# Altium integrated library Microchip DSC 16-Bit dsPIC30F.IntLib: 267 symbols (part 1 of 12)
Pins are listed as number, name and electrical type; pins without a type are passive.

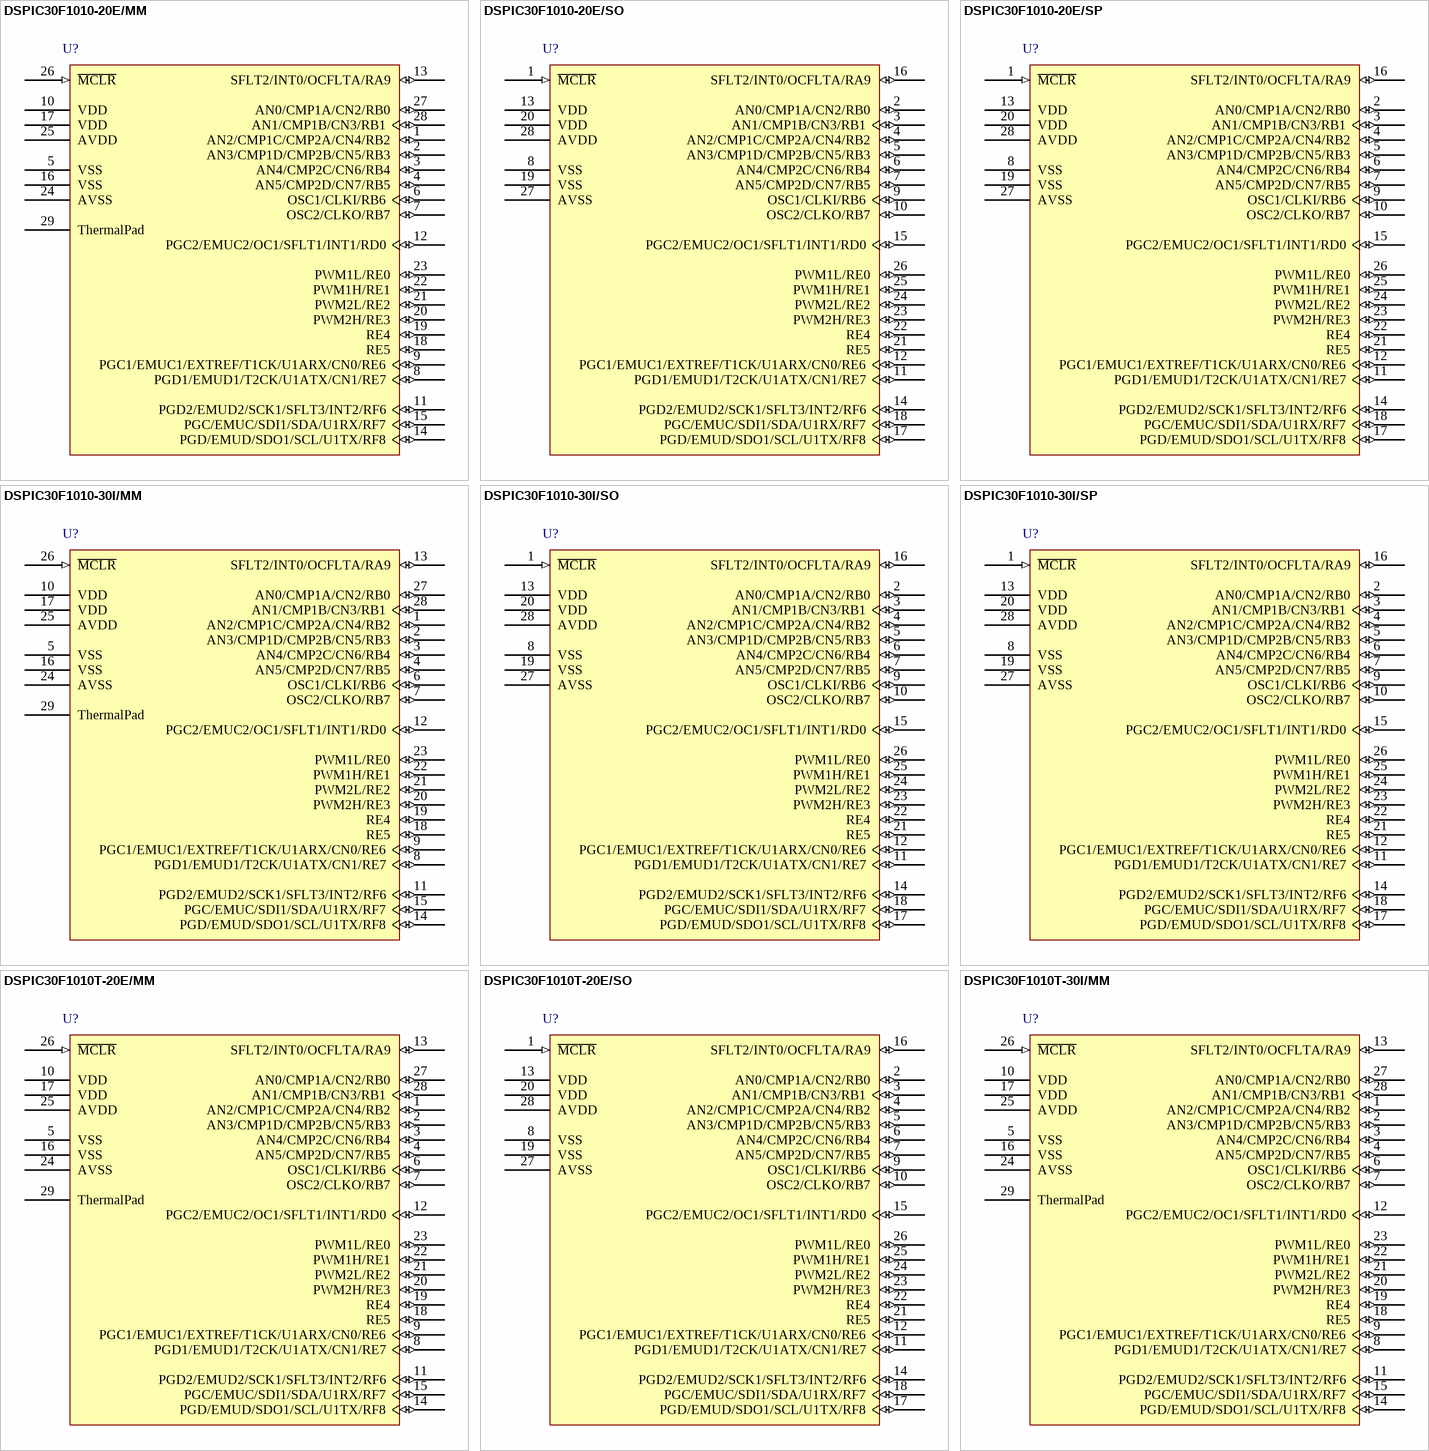
[diagram p0: symbols DSPIC30F1010-20E/MM to DSPIC30F1010T-30I/MM]

## DSPIC30F1010-20E/MM
designator U?
High-Performance 16-bit Digital Signal Controller with Switch Mode Power Supply, 6 KB Flash, 256 Byte SRAM, 28-Pin QFN, Extended High Temperature; Published: 29-Jan-2009; DatasheetVersion: revC, Nov-2006; PackageVersion: revBB, Aug-2009; PackageReference: QFNS-MM28; Publisher: Altium Limited; PackageDescription: 28-Lead Plastic Quad Flat, No Lead Package (MM) - 6x6x0.9 mm Body [QFN-S] with 0.40 mm Contact Length; Supplier 1: Digi-Key; Supplier Part Number 1: DSPIC30F1010-20E/MM-ND; ComponentLink1Description: Datasheet; ComponentLink1URL: http://ww1.microchip.com/downloads/en/DeviceDoc/70178C.pdf; ComponentLink2Description: Packaging Specification; ComponentLink2URL: http://www.microchip.com/stellent/groups/techpub_sg/documents/packagingspec/en012702.pdf; ComponentLink3Description: Microchip.com Home; ComponentLink3URL: http://www.microchip.com/
footprint QFNS-MM28_N (QFN, 28-Leads, Body 6x6 mm, Pitch 0.65mm, IPC Medium Density)
footprint QFNS-MM28_L (QFN, 28-Leads, Body 6x6 mm, Pitch 0.65mm, IPC High Density)
footprint QFNS-MM28_M (QFN, 28-Leads, Body 6x6 mm, Pitch 0.65mm, IPC Low Density)
pins: 1 AN2/CMP1C/CMP2A/CN4/RB2 (io), 2 AN3/CMP1D/CMP2B/CN5/RB3 (io), 3 AN4/CMP2C/CN6/RB4 (io), 4 AN5/CMP2D/CN7/RB5 (io), 5 VSS (power), 6 OSC1/CLKI/RB6 (io), 7 OSC2/CLKO/RB7 (io), 8 PGD1/EMUD1/T2CK/U1ATX/CN1/RE7 (io), 9 PGC1/EMUC1/EXTREF/T1CK/U1ARX/CN0/RE6 (io), 10 VDD (power), 11 PGD2/EMUD2/SCK1/SFLT3/INT2/RF6 (io), 12 PGC2/EMUC2/OC1/SFLT1/INT1/RD0 (io), 13 SFLT2/INT0/OCFLTA/RA9 (io), 14 PGD/EMUD/SDO1/SCL/U1TX/RF8 (io), 15 PGC/EMUC/SDI1/SDA/U1RX/RF7 (io), 16 VSS (power), 17 VDD (power), 18 RE5 (io), 19 RE4 (io), 20 PWM2H/RE3 (io), 21 PWM2L/RE2 (io), 22 PWM1H/RE1 (io), 23 PWM1L/RE0 (io), 24 AVSS (power), 25 AVDD (power), 26 ~{MCLR} (in), 27 AN0/CMP1A/CN2/RB0 (io), 28 AN1/CMP1B/CN3/RB1 (io), 29 ThermalPad

## DSPIC30F1010-20E/SO
designator U?
High-Performance 16-bit Digital Signal Controller with Switch Mode Power Supply, 6 KB Flash, 256 Byte SRAM, 28-Pin SOIC, Extended High Temperature; Published: 29-Jan-2009; DatasheetVersion: revC, Nov-2006; PackageVersion: revBB, Aug-2009; PackageReference: SOIC-SO28; Publisher: Altium Limited; PackageDescription: 28-Lead Plastic Small Outline (SO) - Wide 7.50mm Body [SOIC]; Supplier 1: Digi-Key; Supplier Part Number 1: DSPIC30F1010-20E/SO-ND; Code_JEDEC: MS-013; ComponentLink1Description: Datasheet; ComponentLink1URL: http://ww1.microchip.com/downloads/en/DeviceDoc/70178C.pdf; ComponentLink2Description: Packaging Specification; ComponentLink2URL: http://www.microchip.com/stellent/groups/techpub_sg/documents/packagingspec/en012702.pdf; ComponentLink3Description: Microchip.com Home; ComponentLink3URL: http://www.microchip.com/
footprint SOIC-SO28_N (SOIC, 28-Leads, Body 17.9x7.5mm, Pitch 1.27mm, IPC Medium Density)
footprint SOIC-SO28_L (SOIC, 28-Leads, Body 17.9x7.5mm, Pitch 1.27mm, IPC High Density)
footprint SOIC-SO28_M (SOIC, 28-Leads, Body 17.9x7.5mm, Pitch 1.27mm, IPC Low Density)
pins: 1 ~{MCLR} (in), 2 AN0/CMP1A/CN2/RB0 (io), 3 AN1/CMP1B/CN3/RB1 (io), 4 AN2/CMP1C/CMP2A/CN4/RB2 (io), 5 AN3/CMP1D/CMP2B/CN5/RB3 (io), 6 AN4/CMP2C/CN6/RB4 (io), 7 AN5/CMP2D/CN7/RB5 (io), 8 VSS (power), 9 OSC1/CLKI/RB6 (io), 10 OSC2/CLKO/RB7 (io), 11 PGD1/EMUD1/T2CK/U1ATX/CN1/RE7 (io), 12 PGC1/EMUC1/EXTREF/T1CK/U1ARX/CN0/RE6 (io), 13 VDD (power), 14 PGD2/EMUD2/SCK1/SFLT3/INT2/RF6 (io), 15 PGC2/EMUC2/OC1/SFLT1/INT1/RD0 (io), 16 SFLT2/INT0/OCFLTA/RA9 (io), 17 PGD/EMUD/SDO1/SCL/U1TX/RF8 (io), 18 PGC/EMUC/SDI1/SDA/U1RX/RF7 (io), 19 VSS (power), 20 VDD (power), 21 RE5 (io), 22 RE4 (io), 23 PWM2H/RE3 (io), 24 PWM2L/RE2 (io), 25 PWM1H/RE1 (io), 26 PWM1L/RE0 (io), 27 AVSS (power), 28 AVDD (power)

## DSPIC30F1010-20E/SP
designator U?
High-Performance 16-bit Digital Signal Controller with Switch Mode Power Supply, 6 KB Flash, 256 Byte SRAM, 28-Pin SPDIP, Extended High Temperature; Published: 29-Jan-2009; DatasheetVersion: revC, Nov-2006; PackageVersion: revBB, Aug-2009; PackageReference: SPDIP300-SP28; Publisher: Altium Limited; PackageDescription: 28-Lead Skinny Plastic Dual In-Line (SP) - 300 mil Body [SPDIP]; Supplier 1: Digi-Key; Supplier Part Number 1: DSPIC30F1010-20E/SP-ND; ComponentLink1Description: Datasheet; ComponentLink1URL: http://ww1.microchip.com/downloads/en/DeviceDoc/70178C.pdf; ComponentLink2Description: Packaging Specification; ComponentLink2URL: http://www.microchip.com/stellent/groups/techpub_sg/documents/packagingspec/en012702.pdf; ComponentLink3Description: Microchip.com Home; ComponentLink3URL: http://www.microchip.com/
footprint SPDIP300-SP28 (DIP, 28-Leads, Row Spacing 7.62mm, Pitch 2.54mm, Body 34.9x6.8mm)
pins: 1 ~{MCLR} (in), 2 AN0/CMP1A/CN2/RB0 (io), 3 AN1/CMP1B/CN3/RB1 (io), 4 AN2/CMP1C/CMP2A/CN4/RB2 (io), 5 AN3/CMP1D/CMP2B/CN5/RB3 (io), 6 AN4/CMP2C/CN6/RB4 (io), 7 AN5/CMP2D/CN7/RB5 (io), 8 VSS (power), 9 OSC1/CLKI/RB6 (io), 10 OSC2/CLKO/RB7 (io), 11 PGD1/EMUD1/T2CK/U1ATX/CN1/RE7 (io), 12 PGC1/EMUC1/EXTREF/T1CK/U1ARX/CN0/RE6 (io), 13 VDD (power), 14 PGD2/EMUD2/SCK1/SFLT3/INT2/RF6 (io), 15 PGC2/EMUC2/OC1/SFLT1/INT1/RD0 (io), 16 SFLT2/INT0/OCFLTA/RA9 (io), 17 PGD/EMUD/SDO1/SCL/U1TX/RF8 (io), 18 PGC/EMUC/SDI1/SDA/U1RX/RF7 (io), 19 VSS (power), 20 VDD (power), 21 RE5 (io), 22 RE4 (io), 23 PWM2H/RE3 (io), 24 PWM2L/RE2 (io), 25 PWM1H/RE1 (io), 26 PWM1L/RE0 (io), 27 AVSS (power), 28 AVDD (power)

## DSPIC30F1010-30I/MM
designator U?
High-Performance 16-bit Digital Signal Controller with Switch Mode Power Supply, 6 KB Flash, 256 Byte SRAM, 28-Pin QFN, Industrial Temperature; Published: 29-Jan-2009; DatasheetVersion: revC, Nov-2006; PackageVersion: revBB, Aug-2009; PackageReference: QFNS-MM28; Publisher: Altium Limited; PackageDescription: 28-Lead Plastic Quad Flat, No Lead Package (MM) - 6x6x0.9 mm Body [QFN-S] with 0.40 mm Contact Length; Supplier 1: Digi-Key; Supplier Part Number 1: DSPIC30F1010-30I/MM-ND; ComponentLink1Description: Datasheet; ComponentLink1URL: http://ww1.microchip.com/downloads/en/DeviceDoc/70178C.pdf; ComponentLink2Description: Packaging Specification; ComponentLink2URL: http://www.microchip.com/stellent/groups/techpub_sg/documents/packagingspec/en012702.pdf; ComponentLink3Description: Microchip.com Home; ComponentLink3URL: http://www.microchip.com/
footprint QFNS-MM28_N (QFN, 28-Leads, Body 6x6 mm, Pitch 0.65mm, IPC Medium Density)
footprint QFNS-MM28_L (QFN, 28-Leads, Body 6x6 mm, Pitch 0.65mm, IPC High Density)
footprint QFNS-MM28_M (QFN, 28-Leads, Body 6x6 mm, Pitch 0.65mm, IPC Low Density)
pins: 1 AN2/CMP1C/CMP2A/CN4/RB2 (io), 2 AN3/CMP1D/CMP2B/CN5/RB3 (io), 3 AN4/CMP2C/CN6/RB4 (io), 4 AN5/CMP2D/CN7/RB5 (io), 5 VSS (power), 6 OSC1/CLKI/RB6 (io), 7 OSC2/CLKO/RB7 (io), 8 PGD1/EMUD1/T2CK/U1ATX/CN1/RE7 (io), 9 PGC1/EMUC1/EXTREF/T1CK/U1ARX/CN0/RE6 (io), 10 VDD (power), 11 PGD2/EMUD2/SCK1/SFLT3/INT2/RF6 (io), 12 PGC2/EMUC2/OC1/SFLT1/INT1/RD0 (io), 13 SFLT2/INT0/OCFLTA/RA9 (io), 14 PGD/EMUD/SDO1/SCL/U1TX/RF8 (io), 15 PGC/EMUC/SDI1/SDA/U1RX/RF7 (io), 16 VSS (power), 17 VDD (power), 18 RE5 (io), 19 RE4 (io), 20 PWM2H/RE3 (io), 21 PWM2L/RE2 (io), 22 PWM1H/RE1 (io), 23 PWM1L/RE0 (io), 24 AVSS (power), 25 AVDD (power), 26 ~{MCLR} (in), 27 AN0/CMP1A/CN2/RB0 (io), 28 AN1/CMP1B/CN3/RB1 (io), 29 ThermalPad

## DSPIC30F1010-30I/SO
designator U?
High-Performance 16-bit Digital Signal Controller with Switch Mode Power Supply, 6 KB Flash, 256 Byte SRAM, 28-Pin SOIC, Industrial Temperature; Published: 29-Jan-2009; DatasheetVersion: revC, Nov-2006; PackageVersion: revBB, Aug-2009; PackageReference: SOIC-SO28; Publisher: Altium Limited; PackageDescription: 28-Lead Plastic Small Outline (SO) - Wide 7.50mm Body [SOIC]; Supplier 1: Digi-Key; Supplier Part Number 1: DSPIC30F1010-30I/SO-ND; Supplier 2: Farnell; Supplier Part Number 2: 1332021; Code_JEDEC: MS-013; ComponentLink1Description: Datasheet; ComponentLink1URL: http://ww1.microchip.com/downloads/en/DeviceDoc/70178C.pdf; ComponentLink2Description: Packaging Specification; ComponentLink2URL: http://www.microchip.com/stellent/groups/techpub_sg/documents/packagingspec/en012702.pdf; ComponentLink3Description: Microchip.com Home; ComponentLink3URL: http://www.microchip.com/
footprint SOIC-SO28_N (SOIC, 28-Leads, Body 17.9x7.5mm, Pitch 1.27mm, IPC Medium Density)
footprint SOIC-SO28_L (SOIC, 28-Leads, Body 17.9x7.5mm, Pitch 1.27mm, IPC High Density)
footprint SOIC-SO28_M (SOIC, 28-Leads, Body 17.9x7.5mm, Pitch 1.27mm, IPC Low Density)
pins: 1 ~{MCLR} (in), 2 AN0/CMP1A/CN2/RB0 (io), 3 AN1/CMP1B/CN3/RB1 (io), 4 AN2/CMP1C/CMP2A/CN4/RB2 (io), 5 AN3/CMP1D/CMP2B/CN5/RB3 (io), 6 AN4/CMP2C/CN6/RB4 (io), 7 AN5/CMP2D/CN7/RB5 (io), 8 VSS (power), 9 OSC1/CLKI/RB6 (io), 10 OSC2/CLKO/RB7 (io), 11 PGD1/EMUD1/T2CK/U1ATX/CN1/RE7 (io), 12 PGC1/EMUC1/EXTREF/T1CK/U1ARX/CN0/RE6 (io), 13 VDD (power), 14 PGD2/EMUD2/SCK1/SFLT3/INT2/RF6 (io), 15 PGC2/EMUC2/OC1/SFLT1/INT1/RD0 (io), 16 SFLT2/INT0/OCFLTA/RA9 (io), 17 PGD/EMUD/SDO1/SCL/U1TX/RF8 (io), 18 PGC/EMUC/SDI1/SDA/U1RX/RF7 (io), 19 VSS (power), 20 VDD (power), 21 RE5 (io), 22 RE4 (io), 23 PWM2H/RE3 (io), 24 PWM2L/RE2 (io), 25 PWM1H/RE1 (io), 26 PWM1L/RE0 (io), 27 AVSS (power), 28 AVDD (power)

## DSPIC30F1010-30I/SP
designator U?
High-Performance 16-bit Digital Signal Controller with Switch Mode Power Supply, 6 KB Flash, 256 Byte SRAM, 28-Pin SPDIP, Industrial Temperature; Published: 29-Jan-2009; DatasheetVersion: revC, Nov-2006; PackageVersion: revBB, Aug-2009; PackageReference: SPDIP300-SP28; Publisher: Altium Limited; PackageDescription: 28-Lead Skinny Plastic Dual In-Line (SP) - 300 mil Body [SPDIP]; Supplier 1: Digi-Key; Supplier Part Number 1: DSPIC30F1010-30I/SP-ND; Supplier 2: Farnell; Supplier Part Number 2: 1297280; ComponentLink1Description: Datasheet; ComponentLink1URL: http://ww1.microchip.com/downloads/en/DeviceDoc/70178C.pdf; ComponentLink2Description: Packaging Specification; ComponentLink2URL: http://www.microchip.com/stellent/groups/techpub_sg/documents/packagingspec/en012702.pdf; ComponentLink3Description: Microchip.com Home; ComponentLink3URL: http://www.microchip.com/
footprint SPDIP300-SP28 (DIP, 28-Leads, Row Spacing 7.62mm, Pitch 2.54mm, Body 34.9x6.8mm)
pins: 1 ~{MCLR} (in), 2 AN0/CMP1A/CN2/RB0 (io), 3 AN1/CMP1B/CN3/RB1 (io), 4 AN2/CMP1C/CMP2A/CN4/RB2 (io), 5 AN3/CMP1D/CMP2B/CN5/RB3 (io), 6 AN4/CMP2C/CN6/RB4 (io), 7 AN5/CMP2D/CN7/RB5 (io), 8 VSS (power), 9 OSC1/CLKI/RB6 (io), 10 OSC2/CLKO/RB7 (io), 11 PGD1/EMUD1/T2CK/U1ATX/CN1/RE7 (io), 12 PGC1/EMUC1/EXTREF/T1CK/U1ARX/CN0/RE6 (io), 13 VDD (power), 14 PGD2/EMUD2/SCK1/SFLT3/INT2/RF6 (io), 15 PGC2/EMUC2/OC1/SFLT1/INT1/RD0 (io), 16 SFLT2/INT0/OCFLTA/RA9 (io), 17 PGD/EMUD/SDO1/SCL/U1TX/RF8 (io), 18 PGC/EMUC/SDI1/SDA/U1RX/RF7 (io), 19 VSS (power), 20 VDD (power), 21 RE5 (io), 22 RE4 (io), 23 PWM2H/RE3 (io), 24 PWM2L/RE2 (io), 25 PWM1H/RE1 (io), 26 PWM1L/RE0 (io), 27 AVSS (power), 28 AVDD (power)

## DSPIC30F1010T-20E/MM
designator U?
High-Performance 16-bit Digital Signal Controller with Switch Mode Power Supply, 6 KB Flash, 256 Byte SRAM, 28-Pin QFN, Extended High Temperature, Tape and Reel; Published: 29-Jan-2009; DatasheetVersion: revC, Nov-2006; PackageVersion: revBB, Aug-2009; PackageReference: QFNS-MM28; Publisher: Altium Limited; PackageDescription: 28-Lead Plastic Quad Flat, No Lead Package (MM) - 6x6x0.9 mm Body [QFN-S] with 0.40 mm Contact Length; ComponentLink1Description: Datasheet; ComponentLink1URL: http://ww1.microchip.com/downloads/en/DeviceDoc/70178C.pdf; ComponentLink2Description: Packaging Specification; ComponentLink2URL: http://www.microchip.com/stellent/groups/techpub_sg/documents/packagingspec/en012702.pdf; ComponentLink3Description: Microchip.com Home; ComponentLink3URL: http://www.microchip.com/
footprint QFNS-MM28_N (QFN, 28-Leads, Body 6x6 mm, Pitch 0.65mm, IPC Medium Density)
footprint QFNS-MM28_L (QFN, 28-Leads, Body 6x6 mm, Pitch 0.65mm, IPC High Density)
footprint QFNS-MM28_M (QFN, 28-Leads, Body 6x6 mm, Pitch 0.65mm, IPC Low Density)
pins: 1 AN2/CMP1C/CMP2A/CN4/RB2 (io), 2 AN3/CMP1D/CMP2B/CN5/RB3 (io), 3 AN4/CMP2C/CN6/RB4 (io), 4 AN5/CMP2D/CN7/RB5 (io), 5 VSS (power), 6 OSC1/CLKI/RB6 (io), 7 OSC2/CLKO/RB7 (io), 8 PGD1/EMUD1/T2CK/U1ATX/CN1/RE7 (io), 9 PGC1/EMUC1/EXTREF/T1CK/U1ARX/CN0/RE6 (io), 10 VDD (power), 11 PGD2/EMUD2/SCK1/SFLT3/INT2/RF6 (io), 12 PGC2/EMUC2/OC1/SFLT1/INT1/RD0 (io), 13 SFLT2/INT0/OCFLTA/RA9 (io), 14 PGD/EMUD/SDO1/SCL/U1TX/RF8 (io), 15 PGC/EMUC/SDI1/SDA/U1RX/RF7 (io), 16 VSS (power), 17 VDD (power), 18 RE5 (io), 19 RE4 (io), 20 PWM2H/RE3 (io), 21 PWM2L/RE2 (io), 22 PWM1H/RE1 (io), 23 PWM1L/RE0 (io), 24 AVSS (power), 25 AVDD (power), 26 ~{MCLR} (in), 27 AN0/CMP1A/CN2/RB0 (io), 28 AN1/CMP1B/CN3/RB1 (io), 29 ThermalPad

## DSPIC30F1010T-20E/SO
designator U?
High-Performance 16-bit Digital Signal Controller with Switch Mode Power Supply, 6 KB Flash, 256 Byte SRAM, 28-Pin SOIC, Extended High Temperature, Tape and Reel; Published: 29-Jan-2009; DatasheetVersion: revC, Nov-2006; PackageVersion: revBB, Aug-2009; PackageReference: SOIC-SO28; Publisher: Altium Limited; PackageDescription: 28-Lead Plastic Small Outline (SO) - Wide 7.50mm Body [SOIC]; Code_JEDEC: MS-013; ComponentLink1Description: Datasheet; ComponentLink1URL: http://ww1.microchip.com/downloads/en/DeviceDoc/70178C.pdf; ComponentLink2Description: Packaging Specification; ComponentLink2URL: http://www.microchip.com/stellent/groups/techpub_sg/documents/packagingspec/en012702.pdf; ComponentLink3Description: Microchip.com Home; ComponentLink3URL: http://www.microchip.com/
footprint SOIC-SO28_N (SOIC, 28-Leads, Body 17.9x7.5mm, Pitch 1.27mm, IPC Medium Density)
footprint SOIC-SO28_L (SOIC, 28-Leads, Body 17.9x7.5mm, Pitch 1.27mm, IPC High Density)
footprint SOIC-SO28_M (SOIC, 28-Leads, Body 17.9x7.5mm, Pitch 1.27mm, IPC Low Density)
pins: 1 ~{MCLR} (in), 2 AN0/CMP1A/CN2/RB0 (io), 3 AN1/CMP1B/CN3/RB1 (io), 4 AN2/CMP1C/CMP2A/CN4/RB2 (io), 5 AN3/CMP1D/CMP2B/CN5/RB3 (io), 6 AN4/CMP2C/CN6/RB4 (io), 7 AN5/CMP2D/CN7/RB5 (io), 8 VSS (power), 9 OSC1/CLKI/RB6 (io), 10 OSC2/CLKO/RB7 (io), 11 PGD1/EMUD1/T2CK/U1ATX/CN1/RE7 (io), 12 PGC1/EMUC1/EXTREF/T1CK/U1ARX/CN0/RE6 (io), 13 VDD (power), 14 PGD2/EMUD2/SCK1/SFLT3/INT2/RF6 (io), 15 PGC2/EMUC2/OC1/SFLT1/INT1/RD0 (io), 16 SFLT2/INT0/OCFLTA/RA9 (io), 17 PGD/EMUD/SDO1/SCL/U1TX/RF8 (io), 18 PGC/EMUC/SDI1/SDA/U1RX/RF7 (io), 19 VSS (power), 20 VDD (power), 21 RE5 (io), 22 RE4 (io), 23 PWM2H/RE3 (io), 24 PWM2L/RE2 (io), 25 PWM1H/RE1 (io), 26 PWM1L/RE0 (io), 27 AVSS (power), 28 AVDD (power)

## DSPIC30F1010T-30I/MM
designator U?
High-Performance 16-bit Digital Signal Controller with Switch Mode Power Supply, 6 KB Flash, 256 Byte SRAM, 28-Pin QFN, Industrial Temperature, Tape and Reel; Published: 29-Jan-2009; DatasheetVersion: revC, Nov-2006; PackageVersion: revBB, Aug-2009; PackageReference: QFNS-MM28; Publisher: Altium Limited; PackageDescription: 28-Lead Plastic Quad Flat, No Lead Package (MM) - 6x6x0.9 mm Body [QFN-S] with 0.40 mm Contact Length; Supplier 1: Digi-Key; Supplier Part Number 1: DSPIC30F1010T-30I/MMTR-ND; ComponentLink1Description: Datasheet; ComponentLink1URL: http://ww1.microchip.com/downloads/en/DeviceDoc/70178C.pdf; ComponentLink2Description: Packaging Specification; ComponentLink2URL: http://www.microchip.com/stellent/groups/techpub_sg/documents/packagingspec/en012702.pdf; ComponentLink3Description: Microchip.com Home; ComponentLink3URL: http://www.microchip.com/
footprint QFNS-MM28_N (QFN, 28-Leads, Body 6x6 mm, Pitch 0.65mm, IPC Medium Density)
footprint QFNS-MM28_L (QFN, 28-Leads, Body 6x6 mm, Pitch 0.65mm, IPC High Density)
footprint QFNS-MM28_M (QFN, 28-Leads, Body 6x6 mm, Pitch 0.65mm, IPC Low Density)
pins: 1 AN2/CMP1C/CMP2A/CN4/RB2 (io), 2 AN3/CMP1D/CMP2B/CN5/RB3 (io), 3 AN4/CMP2C/CN6/RB4 (io), 4 AN5/CMP2D/CN7/RB5 (io), 5 VSS (power), 6 OSC1/CLKI/RB6 (io), 7 OSC2/CLKO/RB7 (io), 8 PGD1/EMUD1/T2CK/U1ATX/CN1/RE7 (io), 9 PGC1/EMUC1/EXTREF/T1CK/U1ARX/CN0/RE6 (io), 10 VDD (power), 11 PGD2/EMUD2/SCK1/SFLT3/INT2/RF6 (io), 12 PGC2/EMUC2/OC1/SFLT1/INT1/RD0 (io), 13 SFLT2/INT0/OCFLTA/RA9 (io), 14 PGD/EMUD/SDO1/SCL/U1TX/RF8 (io), 15 PGC/EMUC/SDI1/SDA/U1RX/RF7 (io), 16 VSS (power), 17 VDD (power), 18 RE5 (io), 19 RE4 (io), 20 PWM2H/RE3 (io), 21 PWM2L/RE2 (io), 22 PWM1H/RE1 (io), 23 PWM1L/RE0 (io), 24 AVSS (power), 25 AVDD (power), 26 ~{MCLR} (in), 27 AN0/CMP1A/CN2/RB0 (io), 28 AN1/CMP1B/CN3/RB1 (io), 29 ThermalPad

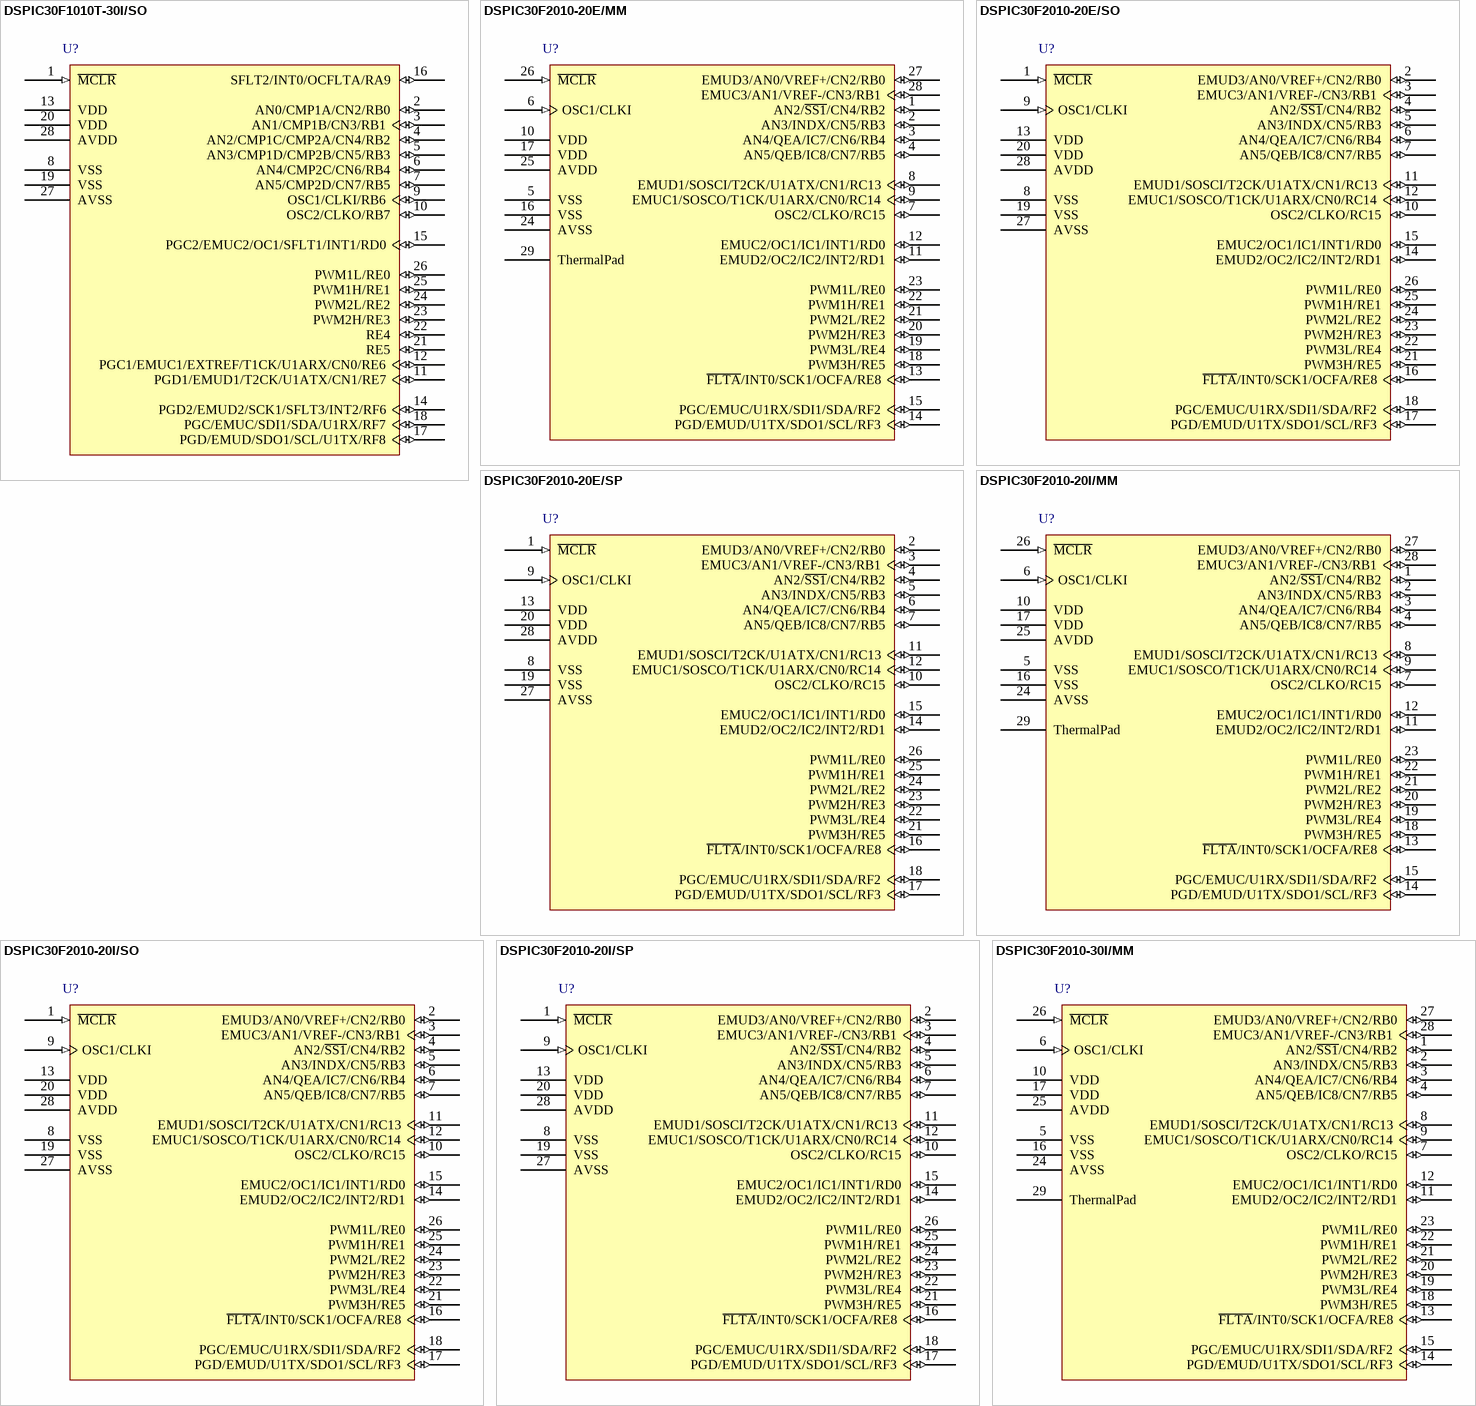
[diagram p1: symbols DSPIC30F1010T-30I/SO to DSPIC30F2010-30I/MM]

## DSPIC30F1010T-30I/SO
designator U?
High-Performance 16-bit Digital Signal Controller with Switch Mode Power Supply, 6 KB Flash, 256 Byte SRAM, 28-Pin SOIC, Industrial Temperature, Tape and Reel; Published: 29-Jan-2009; DatasheetVersion: revC, Nov-2006; PackageVersion: revBB, Aug-2009; PackageReference: SOIC-SO28; Publisher: Altium Limited; PackageDescription: 28-Lead Plastic Small Outline (SO) - Wide 7.50mm Body [SOIC]; Supplier 1: Digi-Key; Supplier Part Number 1: DSPIC30F1010T-30I/SOTR-ND; Code_JEDEC: MS-013; ComponentLink1Description: Datasheet; ComponentLink1URL: http://ww1.microchip.com/downloads/en/DeviceDoc/70178C.pdf; ComponentLink2Description: Packaging Specification; ComponentLink2URL: http://www.microchip.com/stellent/groups/techpub_sg/documents/packagingspec/en012702.pdf; ComponentLink3Description: Microchip.com Home; ComponentLink3URL: http://www.microchip.com/
footprint SOIC-SO28_N (SOIC, 28-Leads, Body 17.9x7.5mm, Pitch 1.27mm, IPC Medium Density)
footprint SOIC-SO28_L (SOIC, 28-Leads, Body 17.9x7.5mm, Pitch 1.27mm, IPC High Density)
footprint SOIC-SO28_M (SOIC, 28-Leads, Body 17.9x7.5mm, Pitch 1.27mm, IPC Low Density)
pins: 1 ~{MCLR} (in), 2 AN0/CMP1A/CN2/RB0 (io), 3 AN1/CMP1B/CN3/RB1 (io), 4 AN2/CMP1C/CMP2A/CN4/RB2 (io), 5 AN3/CMP1D/CMP2B/CN5/RB3 (io), 6 AN4/CMP2C/CN6/RB4 (io), 7 AN5/CMP2D/CN7/RB5 (io), 8 VSS (power), 9 OSC1/CLKI/RB6 (io), 10 OSC2/CLKO/RB7 (io), 11 PGD1/EMUD1/T2CK/U1ATX/CN1/RE7 (io), 12 PGC1/EMUC1/EXTREF/T1CK/U1ARX/CN0/RE6 (io), 13 VDD (power), 14 PGD2/EMUD2/SCK1/SFLT3/INT2/RF6 (io), 15 PGC2/EMUC2/OC1/SFLT1/INT1/RD0 (io), 16 SFLT2/INT0/OCFLTA/RA9 (io), 17 PGD/EMUD/SDO1/SCL/U1TX/RF8 (io), 18 PGC/EMUC/SDI1/SDA/U1RX/RF7 (io), 19 VSS (power), 20 VDD (power), 21 RE5 (io), 22 RE4 (io), 23 PWM2H/RE3 (io), 24 PWM2L/RE2 (io), 25 PWM1H/RE1 (io), 26 PWM1L/RE0 (io), 27 AVSS (power), 28 AVDD (power)

## DSPIC30F2010-20E/MM
designator U?
High-Performance 16-bit Digital Signal Controller, 12 KB Flash, 512 Byte SRAM, 1 KB EEPROM, 28-Pin QFN, Extended High Temperature; Published: 29-Jan-2009; DatasheetVersion: revH, May-2008; PackageVersion: revBB, Aug-2009; PackageReference: QFNS-MM28; Publisher: Altium Limited; PackageDescription: 28-Lead Plastic Quad Flat, No Lead Package (MM) - 6x6x0.9 mm Body [QFN-S] with 0.40 mm Contact Length; Supplier 1: Digi-Key; Supplier Part Number 1: DSPIC30F2010-20E/MM-ND; ComponentLink1Description: Datasheet; ComponentLink1URL: http://ww1.microchip.com/downloads/en/DeviceDoc/70118H.pdf; ComponentLink2Description: Packaging Specification; ComponentLink2URL: http://www.microchip.com/stellent/groups/techpub_sg/documents/packagingspec/en012702.pdf; ComponentLink3Description: Microchip.com Home; ComponentLink3URL: http://www.microchip.com/
footprint QFNS-MM28_N (QFN, 28-Leads, Body 6x6 mm, Pitch 0.65mm, IPC Medium Density)
footprint QFNS-MM28_L (QFN, 28-Leads, Body 6x6 mm, Pitch 0.65mm, IPC High Density)
footprint QFNS-MM28_M (QFN, 28-Leads, Body 6x6 mm, Pitch 0.65mm, IPC Low Density)
pins: 1 AN2/~{SS1}/CN4/RB2 (io), 2 AN3/INDX/CN5/RB3 (io), 3 AN4/QEA/IC7/CN6/RB4 (io), 4 AN5/QEB/IC8/CN7/RB5 (io), 5 VSS (power), 6 OSC1/CLKI (in), 7 OSC2/CLKO/RC15 (io), 8 EMUD1/SOSCI/T2CK/U1ATX/CN1/RC13 (io), 9 EMUC1/SOSCO/T1CK/U1ARX/CN0/RC14 (io), 10 VDD (power), 11 EMUD2/OC2/IC2/INT2/RD1 (io), 12 EMUC2/OC1/IC1/INT1/RD0 (io), 13 ~{FLTA}/INT0/SCK1/OCFA/RE8 (io), 14 PGD/EMUD/U1TX/SDO1/SCL/RF3 (io), 15 PGC/EMUC/U1RX/SDI1/SDA/RF2 (io), 16 VSS (power), 17 VDD (power), 18 PWM3H/RE5 (io), 19 PWM3L/RE4 (io), 20 PWM2H/RE3 (io), 21 PWM2L/RE2 (io), 22 PWM1H/RE1 (io), 23 PWM1L/RE0 (io), 24 AVSS (power), 25 AVDD (power), 26 ~{MCLR} (in), 27 EMUD3/AN0/VREF+/CN2/RB0 (io), 28 EMUC3/AN1/VREF-/CN3/RB1 (io), 29 ThermalPad

## DSPIC30F2010-20E/SO
designator U?
High-Performance 16-bit Digital Signal Controller, 12 KB Flash, 512 Byte SRAM, 1 KB EEPROM, 28-Pin SOIC, Extended High Temperature; Published: 29-Jan-2009; DatasheetVersion: revH, May-2008; PackageVersion: revBB, Aug-2009; PackageReference: SOIC-SO28; Publisher: Altium Limited; PackageDescription: 28-Lead Plastic Small Outline (SO) - Wide 7.50mm Body [SOIC]; Supplier 1: Digi-Key; Supplier Part Number 1: DSPIC30F2010-20E/SO-ND; Code_JEDEC: MS-013; ComponentLink1Description: Datasheet; ComponentLink1URL: http://ww1.microchip.com/downloads/en/DeviceDoc/70118H.pdf; ComponentLink2Description: Packaging Specification; ComponentLink2URL: http://www.microchip.com/stellent/groups/techpub_sg/documents/packagingspec/en012702.pdf; ComponentLink3Description: Microchip.com Home; ComponentLink3URL: http://www.microchip.com/
footprint SOIC-SO28_N (SOIC, 28-Leads, Body 17.9x7.5mm, Pitch 1.27mm, IPC Medium Density)
footprint SOIC-SO28_L (SOIC, 28-Leads, Body 17.9x7.5mm, Pitch 1.27mm, IPC High Density)
footprint SOIC-SO28_M (SOIC, 28-Leads, Body 17.9x7.5mm, Pitch 1.27mm, IPC Low Density)
pins: 1 ~{MCLR} (in), 2 EMUD3/AN0/VREF+/CN2/RB0 (io), 3 EMUC3/AN1/VREF-/CN3/RB1 (io), 4 AN2/~{SS1}/CN4/RB2 (io), 5 AN3/INDX/CN5/RB3 (io), 6 AN4/QEA/IC7/CN6/RB4 (io), 7 AN5/QEB/IC8/CN7/RB5 (io), 8 VSS (power), 9 OSC1/CLKI (in), 10 OSC2/CLKO/RC15 (io), 11 EMUD1/SOSCI/T2CK/U1ATX/CN1/RC13 (io), 12 EMUC1/SOSCO/T1CK/U1ARX/CN0/RC14 (io), 13 VDD (power), 14 EMUD2/OC2/IC2/INT2/RD1 (io), 15 EMUC2/OC1/IC1/INT1/RD0 (io), 16 ~{FLTA}/INT0/SCK1/OCFA/RE8 (io), 17 PGD/EMUD/U1TX/SDO1/SCL/RF3 (io), 18 PGC/EMUC/U1RX/SDI1/SDA/RF2 (io), 19 VSS (power), 20 VDD (power), 21 PWM3H/RE5 (io), 22 PWM3L/RE4 (io), 23 PWM2H/RE3 (io), 24 PWM2L/RE2 (io), 25 PWM1H/RE1 (io), 26 PWM1L/RE0 (io), 27 AVSS (power), 28 AVDD (power)

## DSPIC30F2010-20E/SP
designator U?
High-Performance 16-bit Digital Signal Controller, 12 KB Flash, 512 Byte SRAM, 1 KB EEPROM, 28-Pin SPDIP, Extended High Temperature; Published: 29-Jan-2009; DatasheetVersion: revH, May-2008; PackageVersion: revBB, Aug-2009; PackageReference: SPDIP300-SP28; Publisher: Altium Limited; PackageDescription: 28-Lead Skinny Plastic Dual In-Line (SP) - 300 mil Body [SPDIP]; Supplier 1: Digi-Key; Supplier Part Number 1: DSPIC30F2010-20E/SP-ND; Supplier 2: Farnell; Supplier Part Number 2: 1818553; ComponentLink1Description: Datasheet; ComponentLink1URL: http://ww1.microchip.com/downloads/en/DeviceDoc/70118H.pdf; ComponentLink2Description: Packaging Specification; ComponentLink2URL: http://www.microchip.com/stellent/groups/techpub_sg/documents/packagingspec/en012702.pdf; ComponentLink3Description: Microchip.com Home; ComponentLink3URL: http://www.microchip.com/
footprint SPDIP300-SP28 (DIP, 28-Leads, Row Spacing 7.62mm, Pitch 2.54mm, Body 34.9x6.8mm)
pins: 1 ~{MCLR} (in), 2 EMUD3/AN0/VREF+/CN2/RB0 (io), 3 EMUC3/AN1/VREF-/CN3/RB1 (io), 4 AN2/~{SS1}/CN4/RB2 (io), 5 AN3/INDX/CN5/RB3 (io), 6 AN4/QEA/IC7/CN6/RB4 (io), 7 AN5/QEB/IC8/CN7/RB5 (io), 8 VSS (power), 9 OSC1/CLKI (in), 10 OSC2/CLKO/RC15 (io), 11 EMUD1/SOSCI/T2CK/U1ATX/CN1/RC13 (io), 12 EMUC1/SOSCO/T1CK/U1ARX/CN0/RC14 (io), 13 VDD (power), 14 EMUD2/OC2/IC2/INT2/RD1 (io), 15 EMUC2/OC1/IC1/INT1/RD0 (io), 16 ~{FLTA}/INT0/SCK1/OCFA/RE8 (io), 17 PGD/EMUD/U1TX/SDO1/SCL/RF3 (io), 18 PGC/EMUC/U1RX/SDI1/SDA/RF2 (io), 19 VSS (power), 20 VDD (power), 21 PWM3H/RE5 (io), 22 PWM3L/RE4 (io), 23 PWM2H/RE3 (io), 24 PWM2L/RE2 (io), 25 PWM1H/RE1 (io), 26 PWM1L/RE0 (io), 27 AVSS (power), 28 AVDD (power)

## DSPIC30F2010-20I/MM
designator U?
High-Performance 16-bit Digital Signal Controller, 12 KB Flash, 512 Byte SRAM, 1 KB EEPROM, 28-Pin QFN, Industrial Temperature; Published: 29-Jan-2009; DatasheetVersion: revH, May-2008; PackageVersion: revBB, Aug-2009; PackageReference: QFNS-MM28; Publisher: Altium Limited; PackageDescription: 28-Lead Plastic Quad Flat, No Lead Package (MM) - 6x6x0.9 mm Body [QFN-S] with 0.40 mm Contact Length; Supplier 1: Digi-Key; Supplier Part Number 1: DSPIC30F2010-20I/MM-ND; ComponentLink1Description: Datasheet; ComponentLink1URL: http://ww1.microchip.com/downloads/en/DeviceDoc/70118H.pdf; ComponentLink2Description: Packaging Specification; ComponentLink2URL: http://www.microchip.com/stellent/groups/techpub_sg/documents/packagingspec/en012702.pdf; ComponentLink3Description: Microchip.com Home; ComponentLink3URL: http://www.microchip.com/
footprint QFNS-MM28_N (QFN, 28-Leads, Body 6x6 mm, Pitch 0.65mm, IPC Medium Density)
footprint QFNS-MM28_L (QFN, 28-Leads, Body 6x6 mm, Pitch 0.65mm, IPC High Density)
footprint QFNS-MM28_M (QFN, 28-Leads, Body 6x6 mm, Pitch 0.65mm, IPC Low Density)
pins: 1 AN2/~{SS1}/CN4/RB2 (io), 2 AN3/INDX/CN5/RB3 (io), 3 AN4/QEA/IC7/CN6/RB4 (io), 4 AN5/QEB/IC8/CN7/RB5 (io), 5 VSS (power), 6 OSC1/CLKI (in), 7 OSC2/CLKO/RC15 (io), 8 EMUD1/SOSCI/T2CK/U1ATX/CN1/RC13 (io), 9 EMUC1/SOSCO/T1CK/U1ARX/CN0/RC14 (io), 10 VDD (power), 11 EMUD2/OC2/IC2/INT2/RD1 (io), 12 EMUC2/OC1/IC1/INT1/RD0 (io), 13 ~{FLTA}/INT0/SCK1/OCFA/RE8 (io), 14 PGD/EMUD/U1TX/SDO1/SCL/RF3 (io), 15 PGC/EMUC/U1RX/SDI1/SDA/RF2 (io), 16 VSS (power), 17 VDD (power), 18 PWM3H/RE5 (io), 19 PWM3L/RE4 (io), 20 PWM2H/RE3 (io), 21 PWM2L/RE2 (io), 22 PWM1H/RE1 (io), 23 PWM1L/RE0 (io), 24 AVSS (power), 25 AVDD (power), 26 ~{MCLR} (in), 27 EMUD3/AN0/VREF+/CN2/RB0 (io), 28 EMUC3/AN1/VREF-/CN3/RB1 (io), 29 ThermalPad

## DSPIC30F2010-20I/SO
designator U?
High-Performance 16-bit Digital Signal Controller, 12 KB Flash, 512 Byte SRAM, 1 KB EEPROM, 28-Pin SOIC, Industrial Temperature; Published: 29-Jan-2009; DatasheetVersion: revH, May-2008; PackageVersion: revBB, Aug-2009; PackageReference: SOIC-SO28; Publisher: Altium Limited; PackageDescription: 28-Lead Plastic Small Outline (SO) - Wide 7.50mm Body [SOIC]; Supplier 1: Digi-Key; Supplier Part Number 1: DSPIC30F201020IS-ND; Supplier 2: Farnell; Supplier Part Number 2: 7334151; Code_JEDEC: MS-013; ComponentLink1Description: Datasheet; ComponentLink1URL: http://ww1.microchip.com/downloads/en/DeviceDoc/70118H.pdf; ComponentLink2Description: Packaging Specification; ComponentLink2URL: http://www.microchip.com/stellent/groups/techpub_sg/documents/packagingspec/en012702.pdf; ComponentLink3Description: Microchip.com Home; ComponentLink3URL: http://www.microchip.com/
footprint SOIC-SO28_N (SOIC, 28-Leads, Body 17.9x7.5mm, Pitch 1.27mm, IPC Medium Density)
footprint SOIC-SO28_L (SOIC, 28-Leads, Body 17.9x7.5mm, Pitch 1.27mm, IPC High Density)
footprint SOIC-SO28_M (SOIC, 28-Leads, Body 17.9x7.5mm, Pitch 1.27mm, IPC Low Density)
pins: 1 ~{MCLR} (in), 2 EMUD3/AN0/VREF+/CN2/RB0 (io), 3 EMUC3/AN1/VREF-/CN3/RB1 (io), 4 AN2/~{SS1}/CN4/RB2 (io), 5 AN3/INDX/CN5/RB3 (io), 6 AN4/QEA/IC7/CN6/RB4 (io), 7 AN5/QEB/IC8/CN7/RB5 (io), 8 VSS (power), 9 OSC1/CLKI (in), 10 OSC2/CLKO/RC15 (io), 11 EMUD1/SOSCI/T2CK/U1ATX/CN1/RC13 (io), 12 EMUC1/SOSCO/T1CK/U1ARX/CN0/RC14 (io), 13 VDD (power), 14 EMUD2/OC2/IC2/INT2/RD1 (io), 15 EMUC2/OC1/IC1/INT1/RD0 (io), 16 ~{FLTA}/INT0/SCK1/OCFA/RE8 (io), 17 PGD/EMUD/U1TX/SDO1/SCL/RF3 (io), 18 PGC/EMUC/U1RX/SDI1/SDA/RF2 (io), 19 VSS (power), 20 VDD (power), 21 PWM3H/RE5 (io), 22 PWM3L/RE4 (io), 23 PWM2H/RE3 (io), 24 PWM2L/RE2 (io), 25 PWM1H/RE1 (io), 26 PWM1L/RE0 (io), 27 AVSS (power), 28 AVDD (power)

## DSPIC30F2010-20I/SP
designator U?
High-Performance 16-bit Digital Signal Controller, 12 KB Flash, 512 Byte SRAM, 1 KB EEPROM, 28-Pin SPDIP, Industrial Temperature; Published: 29-Jan-2009; DatasheetVersion: revH, May-2008; PackageVersion: revBB, Aug-2009; PackageReference: SPDIP300-SP28; Publisher: Altium Limited; PackageDescription: 28-Lead Skinny Plastic Dual In-Line (SP) - 300 mil Body [SPDIP]; Supplier 1: Digi-Key; Supplier Part Number 1: DSPIC30F201020ISP-ND; Supplier 2: Farnell; Supplier Part Number 2: 1466066; ComponentLink1Description: Datasheet; ComponentLink1URL: http://ww1.microchip.com/downloads/en/DeviceDoc/70118H.pdf; ComponentLink2Description: Packaging Specification; ComponentLink2URL: http://www.microchip.com/stellent/groups/techpub_sg/documents/packagingspec/en012702.pdf; ComponentLink3Description: Microchip.com Home; ComponentLink3URL: http://www.microchip.com/
footprint SPDIP300-SP28 (DIP, 28-Leads, Row Spacing 7.62mm, Pitch 2.54mm, Body 34.9x6.8mm)
pins: 1 ~{MCLR} (in), 2 EMUD3/AN0/VREF+/CN2/RB0 (io), 3 EMUC3/AN1/VREF-/CN3/RB1 (io), 4 AN2/~{SS1}/CN4/RB2 (io), 5 AN3/INDX/CN5/RB3 (io), 6 AN4/QEA/IC7/CN6/RB4 (io), 7 AN5/QEB/IC8/CN7/RB5 (io), 8 VSS (power), 9 OSC1/CLKI (in), 10 OSC2/CLKO/RC15 (io), 11 EMUD1/SOSCI/T2CK/U1ATX/CN1/RC13 (io), 12 EMUC1/SOSCO/T1CK/U1ARX/CN0/RC14 (io), 13 VDD (power), 14 EMUD2/OC2/IC2/INT2/RD1 (io), 15 EMUC2/OC1/IC1/INT1/RD0 (io), 16 ~{FLTA}/INT0/SCK1/OCFA/RE8 (io), 17 PGD/EMUD/U1TX/SDO1/SCL/RF3 (io), 18 PGC/EMUC/U1RX/SDI1/SDA/RF2 (io), 19 VSS (power), 20 VDD (power), 21 PWM3H/RE5 (io), 22 PWM3L/RE4 (io), 23 PWM2H/RE3 (io), 24 PWM2L/RE2 (io), 25 PWM1H/RE1 (io), 26 PWM1L/RE0 (io), 27 AVSS (power), 28 AVDD (power)

## DSPIC30F2010-30I/MM
designator U?
High-Performance 16-bit Digital Signal Controller, 12 KB Flash, 512 Byte SRAM, 1 KB EEPROM, 28-Pin QFN, Industrial Temperature; Published: 29-Jan-2009; DatasheetVersion: revH, May-2008; PackageVersion: revBB, Aug-2009; PackageReference: QFNS-MM28; Publisher: Altium Limited; PackageDescription: 28-Lead Plastic Quad Flat, No Lead Package (MM) - 6x6x0.9 mm Body [QFN-S] with 0.40 mm Contact Length; Supplier 1: Digi-Key; Supplier Part Number 1: DSPIC30F2010-30I/MM-ND; Supplier 2: Farnell; Supplier Part Number 2: 1818554; ComponentLink1Description: Datasheet; ComponentLink1URL: http://ww1.microchip.com/downloads/en/DeviceDoc/70118H.pdf; ComponentLink2Description: Packaging Specification; ComponentLink2URL: http://www.microchip.com/stellent/groups/techpub_sg/documents/packagingspec/en012702.pdf; ComponentLink3Description: Microchip.com Home; ComponentLink3URL: http://www.microchip.com/
footprint QFNS-MM28_N (QFN, 28-Leads, Body 6x6 mm, Pitch 0.65mm, IPC Medium Density)
footprint QFNS-MM28_L (QFN, 28-Leads, Body 6x6 mm, Pitch 0.65mm, IPC High Density)
footprint QFNS-MM28_M (QFN, 28-Leads, Body 6x6 mm, Pitch 0.65mm, IPC Low Density)
pins: 1 AN2/~{SS1}/CN4/RB2 (io), 2 AN3/INDX/CN5/RB3 (io), 3 AN4/QEA/IC7/CN6/RB4 (io), 4 AN5/QEB/IC8/CN7/RB5 (io), 5 VSS (power), 6 OSC1/CLKI (in), 7 OSC2/CLKO/RC15 (io), 8 EMUD1/SOSCI/T2CK/U1ATX/CN1/RC13 (io), 9 EMUC1/SOSCO/T1CK/U1ARX/CN0/RC14 (io), 10 VDD (power), 11 EMUD2/OC2/IC2/INT2/RD1 (io), 12 EMUC2/OC1/IC1/INT1/RD0 (io), 13 ~{FLTA}/INT0/SCK1/OCFA/RE8 (io), 14 PGD/EMUD/U1TX/SDO1/SCL/RF3 (io), 15 PGC/EMUC/U1RX/SDI1/SDA/RF2 (io), 16 VSS (power), 17 VDD (power), 18 PWM3H/RE5 (io), 19 PWM3L/RE4 (io), 20 PWM2H/RE3 (io), 21 PWM2L/RE2 (io), 22 PWM1H/RE1 (io), 23 PWM1L/RE0 (io), 24 AVSS (power), 25 AVDD (power), 26 ~{MCLR} (in), 27 EMUD3/AN0/VREF+/CN2/RB0 (io), 28 EMUC3/AN1/VREF-/CN3/RB1 (io), 29 ThermalPad

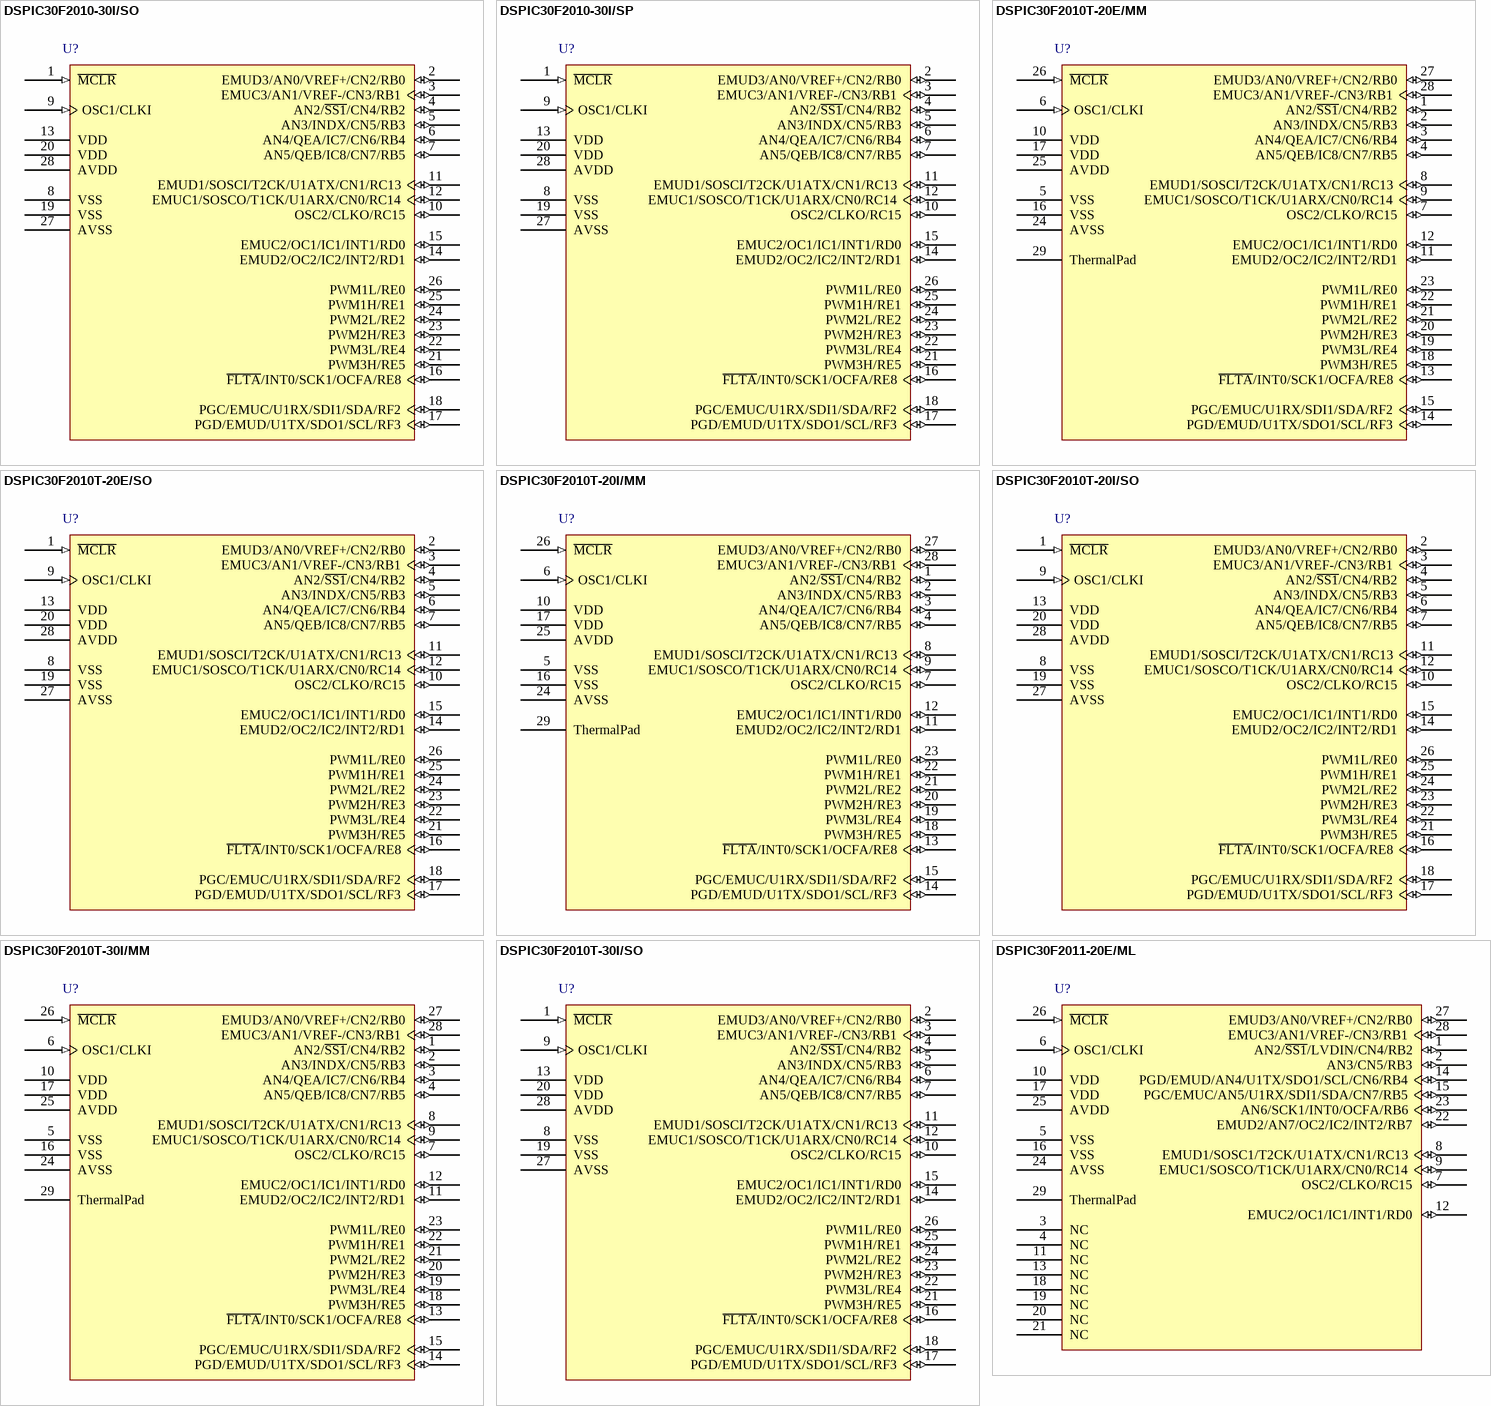
[diagram p2: symbols DSPIC30F2010-30I/SO to DSPIC30F2011-20E/ML]

## DSPIC30F2010-30I/SO
designator U?
High-Performance 16-bit Digital Signal Controller, 12 KB Flash, 512 Byte SRAM, 1 KB EEPROM, 28-Pin SOIC, Industrial Temperature; Published: 29-Jan-2009; DatasheetVersion: revH, May-2008; PackageVersion: revBB, Aug-2009; PackageReference: SOIC-SO28; Publisher: Altium Limited; PackageDescription: 28-Lead Plastic Small Outline (SO) - Wide 7.50mm Body [SOIC]; Supplier 1: Digi-Key; Supplier Part Number 1: DSPIC30F201030I/S-ND; Supplier 2: Farnell; Supplier Part Number 2: 7334199; Code_JEDEC: MS-013; ComponentLink1Description: Datasheet; ComponentLink1URL: http://ww1.microchip.com/downloads/en/DeviceDoc/70118H.pdf; ComponentLink2Description: Packaging Specification; ComponentLink2URL: http://www.microchip.com/stellent/groups/techpub_sg/documents/packagingspec/en012702.pdf; ComponentLink3Description: Microchip.com Home; ComponentLink3URL: http://www.microchip.com/
footprint SOIC-SO28_N (SOIC, 28-Leads, Body 17.9x7.5mm, Pitch 1.27mm, IPC Medium Density)
footprint SOIC-SO28_L (SOIC, 28-Leads, Body 17.9x7.5mm, Pitch 1.27mm, IPC High Density)
footprint SOIC-SO28_M (SOIC, 28-Leads, Body 17.9x7.5mm, Pitch 1.27mm, IPC Low Density)
pins: 1 ~{MCLR} (in), 2 EMUD3/AN0/VREF+/CN2/RB0 (io), 3 EMUC3/AN1/VREF-/CN3/RB1 (io), 4 AN2/~{SS1}/CN4/RB2 (io), 5 AN3/INDX/CN5/RB3 (io), 6 AN4/QEA/IC7/CN6/RB4 (io), 7 AN5/QEB/IC8/CN7/RB5 (io), 8 VSS (power), 9 OSC1/CLKI (in), 10 OSC2/CLKO/RC15 (io), 11 EMUD1/SOSCI/T2CK/U1ATX/CN1/RC13 (io), 12 EMUC1/SOSCO/T1CK/U1ARX/CN0/RC14 (io), 13 VDD (power), 14 EMUD2/OC2/IC2/INT2/RD1 (io), 15 EMUC2/OC1/IC1/INT1/RD0 (io), 16 ~{FLTA}/INT0/SCK1/OCFA/RE8 (io), 17 PGD/EMUD/U1TX/SDO1/SCL/RF3 (io), 18 PGC/EMUC/U1RX/SDI1/SDA/RF2 (io), 19 VSS (power), 20 VDD (power), 21 PWM3H/RE5 (io), 22 PWM3L/RE4 (io), 23 PWM2H/RE3 (io), 24 PWM2L/RE2 (io), 25 PWM1H/RE1 (io), 26 PWM1L/RE0 (io), 27 AVSS (power), 28 AVDD (power)

## DSPIC30F2010-30I/SP
designator U?
High-Performance 16-bit Digital Signal Controller, 12 KB Flash, 512 Byte SRAM, 1 KB EEPROM, 28-Pin SPDIP, Industrial Temperature; Published: 29-Jan-2009; DatasheetVersion: revH, May-2008; PackageVersion: revBB, Aug-2009; PackageReference: SPDIP300-SP28; Publisher: Altium Limited; PackageDescription: 28-Lead Skinny Plastic Dual In-Line (SP) - 300 mil Body [SPDIP]; Supplier 1: Digi-Key; Supplier Part Number 1: DSPIC30F201030ISP-ND; Supplier 2: Farnell; Supplier Part Number 2: 7334205; ComponentLink1Description: Datasheet; ComponentLink1URL: http://ww1.microchip.com/downloads/en/DeviceDoc/70118H.pdf; ComponentLink2Description: Packaging Specification; ComponentLink2URL: http://www.microchip.com/stellent/groups/techpub_sg/documents/packagingspec/en012702.pdf; ComponentLink3Description: Microchip.com Home; ComponentLink3URL: http://www.microchip.com/
footprint SPDIP300-SP28 (DIP, 28-Leads, Row Spacing 7.62mm, Pitch 2.54mm, Body 34.9x6.8mm)
pins: 1 ~{MCLR} (in), 2 EMUD3/AN0/VREF+/CN2/RB0 (io), 3 EMUC3/AN1/VREF-/CN3/RB1 (io), 4 AN2/~{SS1}/CN4/RB2 (io), 5 AN3/INDX/CN5/RB3 (io), 6 AN4/QEA/IC7/CN6/RB4 (io), 7 AN5/QEB/IC8/CN7/RB5 (io), 8 VSS (power), 9 OSC1/CLKI (in), 10 OSC2/CLKO/RC15 (io), 11 EMUD1/SOSCI/T2CK/U1ATX/CN1/RC13 (io), 12 EMUC1/SOSCO/T1CK/U1ARX/CN0/RC14 (io), 13 VDD (power), 14 EMUD2/OC2/IC2/INT2/RD1 (io), 15 EMUC2/OC1/IC1/INT1/RD0 (io), 16 ~{FLTA}/INT0/SCK1/OCFA/RE8 (io), 17 PGD/EMUD/U1TX/SDO1/SCL/RF3 (io), 18 PGC/EMUC/U1RX/SDI1/SDA/RF2 (io), 19 VSS (power), 20 VDD (power), 21 PWM3H/RE5 (io), 22 PWM3L/RE4 (io), 23 PWM2H/RE3 (io), 24 PWM2L/RE2 (io), 25 PWM1H/RE1 (io), 26 PWM1L/RE0 (io), 27 AVSS (power), 28 AVDD (power)

## DSPIC30F2010T-20E/MM
designator U?
High-Performance 16-bit Digital Signal Controller, 12 KB Flash, 512 Byte SRAM, 1 KB EEPROM, 28-Pin QFN, Extended High Temperature, Tape and Reel; Published: 29-Jan-2009; DatasheetVersion: revH, May-2008; PackageVersion: revBB, Aug-2009; PackageReference: QFNS-MM28; Publisher: Altium Limited; PackageDescription: 28-Lead Plastic Quad Flat, No Lead Package (MM) - 6x6x0.9 mm Body [QFN-S] with 0.40 mm Contact Length; Supplier 1: Digi-Key; Supplier Part Number 1: DSPIC30F2010T-20E/MM-ND; ComponentLink1Description: Datasheet; ComponentLink1URL: http://ww1.microchip.com/downloads/en/DeviceDoc/70118H.pdf; ComponentLink2Description: Packaging Specification; ComponentLink2URL: http://www.microchip.com/stellent/groups/techpub_sg/documents/packagingspec/en012702.pdf; ComponentLink3Description: Microchip.com Home; ComponentLink3URL: http://www.microchip.com/
footprint QFNS-MM28_N (QFN, 28-Leads, Body 6x6 mm, Pitch 0.65mm, IPC Medium Density)
footprint QFNS-MM28_L (QFN, 28-Leads, Body 6x6 mm, Pitch 0.65mm, IPC High Density)
footprint QFNS-MM28_M (QFN, 28-Leads, Body 6x6 mm, Pitch 0.65mm, IPC Low Density)
pins: 1 AN2/~{SS1}/CN4/RB2 (io), 2 AN3/INDX/CN5/RB3 (io), 3 AN4/QEA/IC7/CN6/RB4 (io), 4 AN5/QEB/IC8/CN7/RB5 (io), 5 VSS (power), 6 OSC1/CLKI (in), 7 OSC2/CLKO/RC15 (io), 8 EMUD1/SOSCI/T2CK/U1ATX/CN1/RC13 (io), 9 EMUC1/SOSCO/T1CK/U1ARX/CN0/RC14 (io), 10 VDD (power), 11 EMUD2/OC2/IC2/INT2/RD1 (io), 12 EMUC2/OC1/IC1/INT1/RD0 (io), 13 ~{FLTA}/INT0/SCK1/OCFA/RE8 (io), 14 PGD/EMUD/U1TX/SDO1/SCL/RF3 (io), 15 PGC/EMUC/U1RX/SDI1/SDA/RF2 (io), 16 VSS (power), 17 VDD (power), 18 PWM3H/RE5 (io), 19 PWM3L/RE4 (io), 20 PWM2H/RE3 (io), 21 PWM2L/RE2 (io), 22 PWM1H/RE1 (io), 23 PWM1L/RE0 (io), 24 AVSS (power), 25 AVDD (power), 26 ~{MCLR} (in), 27 EMUD3/AN0/VREF+/CN2/RB0 (io), 28 EMUC3/AN1/VREF-/CN3/RB1 (io), 29 ThermalPad

## DSPIC30F2010T-20E/SO
designator U?
High-Performance 16-bit Digital Signal Controller, 12 KB Flash, 512 Byte SRAM, 1 KB EEPROM, 28-Pin SOIC, Extended High Temperature, Tape and Reel; Published: 29-Jan-2009; DatasheetVersion: revH, May-2008; PackageVersion: revBB, Aug-2009; PackageReference: SOIC-SO28; Publisher: Altium Limited; PackageDescription: 28-Lead Plastic Small Outline (SO) - Wide 7.50mm Body [SOIC]; Supplier 1: Digi-Key; Supplier Part Number 1: DSPIC30F2010T-20E/SO-ND; Code_JEDEC: MS-013; ComponentLink1Description: Datasheet; ComponentLink1URL: http://ww1.microchip.com/downloads/en/DeviceDoc/70118H.pdf; ComponentLink2Description: Packaging Specification; ComponentLink2URL: http://www.microchip.com/stellent/groups/techpub_sg/documents/packagingspec/en012702.pdf; ComponentLink3Description: Microchip.com Home; ComponentLink3URL: http://www.microchip.com/
footprint SOIC-SO28_N (SOIC, 28-Leads, Body 17.9x7.5mm, Pitch 1.27mm, IPC Medium Density)
footprint SOIC-SO28_L (SOIC, 28-Leads, Body 17.9x7.5mm, Pitch 1.27mm, IPC High Density)
footprint SOIC-SO28_M (SOIC, 28-Leads, Body 17.9x7.5mm, Pitch 1.27mm, IPC Low Density)
pins: 1 ~{MCLR} (in), 2 EMUD3/AN0/VREF+/CN2/RB0 (io), 3 EMUC3/AN1/VREF-/CN3/RB1 (io), 4 AN2/~{SS1}/CN4/RB2 (io), 5 AN3/INDX/CN5/RB3 (io), 6 AN4/QEA/IC7/CN6/RB4 (io), 7 AN5/QEB/IC8/CN7/RB5 (io), 8 VSS (power), 9 OSC1/CLKI (in), 10 OSC2/CLKO/RC15 (io), 11 EMUD1/SOSCI/T2CK/U1ATX/CN1/RC13 (io), 12 EMUC1/SOSCO/T1CK/U1ARX/CN0/RC14 (io), 13 VDD (power), 14 EMUD2/OC2/IC2/INT2/RD1 (io), 15 EMUC2/OC1/IC1/INT1/RD0 (io), 16 ~{FLTA}/INT0/SCK1/OCFA/RE8 (io), 17 PGD/EMUD/U1TX/SDO1/SCL/RF3 (io), 18 PGC/EMUC/U1RX/SDI1/SDA/RF2 (io), 19 VSS (power), 20 VDD (power), 21 PWM3H/RE5 (io), 22 PWM3L/RE4 (io), 23 PWM2H/RE3 (io), 24 PWM2L/RE2 (io), 25 PWM1H/RE1 (io), 26 PWM1L/RE0 (io), 27 AVSS (power), 28 AVDD (power)

## DSPIC30F2010T-20I/MM
designator U?
High-Performance 16-bit Digital Signal Controller, 12 KB Flash, 512 Byte SRAM, 1 KB EEPROM, 28-Pin QFN, Industrial Temperature, Tape and Reel; Published: 29-Jan-2009; DatasheetVersion: revH, May-2008; PackageVersion: revBB, Aug-2009; PackageReference: QFNS-MM28; Publisher: Altium Limited; PackageDescription: 28-Lead Plastic Quad Flat, No Lead Package (MM) - 6x6x0.9 mm Body [QFN-S] with 0.40 mm Contact Length; Supplier 1: Digi-Key; Supplier Part Number 1: DSPIC30F2010T-20I/MM-ND; ComponentLink1Description: Datasheet; ComponentLink1URL: http://ww1.microchip.com/downloads/en/DeviceDoc/70118H.pdf; ComponentLink2Description: Packaging Specification; ComponentLink2URL: http://www.microchip.com/stellent/groups/techpub_sg/documents/packagingspec/en012702.pdf; ComponentLink3Description: Microchip.com Home; ComponentLink3URL: http://www.microchip.com/
footprint QFNS-MM28_N (QFN, 28-Leads, Body 6x6 mm, Pitch 0.65mm, IPC Medium Density)
footprint QFNS-MM28_L (QFN, 28-Leads, Body 6x6 mm, Pitch 0.65mm, IPC High Density)
footprint QFNS-MM28_M (QFN, 28-Leads, Body 6x6 mm, Pitch 0.65mm, IPC Low Density)
pins: 1 AN2/~{SS1}/CN4/RB2 (io), 2 AN3/INDX/CN5/RB3 (io), 3 AN4/QEA/IC7/CN6/RB4 (io), 4 AN5/QEB/IC8/CN7/RB5 (io), 5 VSS (power), 6 OSC1/CLKI (in), 7 OSC2/CLKO/RC15 (io), 8 EMUD1/SOSCI/T2CK/U1ATX/CN1/RC13 (io), 9 EMUC1/SOSCO/T1CK/U1ARX/CN0/RC14 (io), 10 VDD (power), 11 EMUD2/OC2/IC2/INT2/RD1 (io), 12 EMUC2/OC1/IC1/INT1/RD0 (io), 13 ~{FLTA}/INT0/SCK1/OCFA/RE8 (io), 14 PGD/EMUD/U1TX/SDO1/SCL/RF3 (io), 15 PGC/EMUC/U1RX/SDI1/SDA/RF2 (io), 16 VSS (power), 17 VDD (power), 18 PWM3H/RE5 (io), 19 PWM3L/RE4 (io), 20 PWM2H/RE3 (io), 21 PWM2L/RE2 (io), 22 PWM1H/RE1 (io), 23 PWM1L/RE0 (io), 24 AVSS (power), 25 AVDD (power), 26 ~{MCLR} (in), 27 EMUD3/AN0/VREF+/CN2/RB0 (io), 28 EMUC3/AN1/VREF-/CN3/RB1 (io), 29 ThermalPad

## DSPIC30F2010T-20I/SO
designator U?
High-Performance 16-bit Digital Signal Controller, 12 KB Flash, 512 Byte SRAM, 1 KB EEPROM, 28-Pin SOIC, Industrial Temperature, Tape and Reel; Published: 29-Jan-2009; DatasheetVersion: revH, May-2008; PackageVersion: revBB, Aug-2009; PackageReference: SOIC-SO28; Publisher: Altium Limited; PackageDescription: 28-Lead Plastic Small Outline (SO) - Wide 7.50mm Body [SOIC]; Supplier 1: Digi-Key; Supplier Part Number 1: DSPIC30F2010T20IS-ND; Code_JEDEC: MS-013; ComponentLink1Description: Datasheet; ComponentLink1URL: http://ww1.microchip.com/downloads/en/DeviceDoc/70118H.pdf; ComponentLink2Description: Packaging Specification; ComponentLink2URL: http://www.microchip.com/stellent/groups/techpub_sg/documents/packagingspec/en012702.pdf; ComponentLink3Description: Microchip.com Home; ComponentLink3URL: http://www.microchip.com/
footprint SOIC-SO28_N (SOIC, 28-Leads, Body 17.9x7.5mm, Pitch 1.27mm, IPC Medium Density)
footprint SOIC-SO28_L (SOIC, 28-Leads, Body 17.9x7.5mm, Pitch 1.27mm, IPC High Density)
footprint SOIC-SO28_M (SOIC, 28-Leads, Body 17.9x7.5mm, Pitch 1.27mm, IPC Low Density)
pins: 1 ~{MCLR} (in), 2 EMUD3/AN0/VREF+/CN2/RB0 (io), 3 EMUC3/AN1/VREF-/CN3/RB1 (io), 4 AN2/~{SS1}/CN4/RB2 (io), 5 AN3/INDX/CN5/RB3 (io), 6 AN4/QEA/IC7/CN6/RB4 (io), 7 AN5/QEB/IC8/CN7/RB5 (io), 8 VSS (power), 9 OSC1/CLKI (in), 10 OSC2/CLKO/RC15 (io), 11 EMUD1/SOSCI/T2CK/U1ATX/CN1/RC13 (io), 12 EMUC1/SOSCO/T1CK/U1ARX/CN0/RC14 (io), 13 VDD (power), 14 EMUD2/OC2/IC2/INT2/RD1 (io), 15 EMUC2/OC1/IC1/INT1/RD0 (io), 16 ~{FLTA}/INT0/SCK1/OCFA/RE8 (io), 17 PGD/EMUD/U1TX/SDO1/SCL/RF3 (io), 18 PGC/EMUC/U1RX/SDI1/SDA/RF2 (io), 19 VSS (power), 20 VDD (power), 21 PWM3H/RE5 (io), 22 PWM3L/RE4 (io), 23 PWM2H/RE3 (io), 24 PWM2L/RE2 (io), 25 PWM1H/RE1 (io), 26 PWM1L/RE0 (io), 27 AVSS (power), 28 AVDD (power)

## DSPIC30F2010T-30I/MM
designator U?
High-Performance 16-bit Digital Signal Controller, 12 KB Flash, 512 Byte SRAM, 1 KB EEPROM, 28-Pin QFN, Industrial Temperature, Tape and Reel; Published: 29-Jan-2009; DatasheetVersion: revH, May-2008; PackageVersion: revBB, Aug-2009; PackageReference: QFNS-MM28; Publisher: Altium Limited; PackageDescription: 28-Lead Plastic Quad Flat, No Lead Package (MM) - 6x6x0.9 mm Body [QFN-S] with 0.40 mm Contact Length; Supplier 1: Digi-Key; Supplier Part Number 1: DSPIC30F2010T-30I/MM-ND; ComponentLink1Description: Datasheet; ComponentLink1URL: http://ww1.microchip.com/downloads/en/DeviceDoc/70118H.pdf; ComponentLink2Description: Packaging Specification; ComponentLink2URL: http://www.microchip.com/stellent/groups/techpub_sg/documents/packagingspec/en012702.pdf; ComponentLink3Description: Microchip.com Home; ComponentLink3URL: http://www.microchip.com/
footprint QFNS-MM28_N (QFN, 28-Leads, Body 6x6 mm, Pitch 0.65mm, IPC Medium Density)
footprint QFNS-MM28_L (QFN, 28-Leads, Body 6x6 mm, Pitch 0.65mm, IPC High Density)
footprint QFNS-MM28_M (QFN, 28-Leads, Body 6x6 mm, Pitch 0.65mm, IPC Low Density)
pins: 1 AN2/~{SS1}/CN4/RB2 (io), 2 AN3/INDX/CN5/RB3 (io), 3 AN4/QEA/IC7/CN6/RB4 (io), 4 AN5/QEB/IC8/CN7/RB5 (io), 5 VSS (power), 6 OSC1/CLKI (in), 7 OSC2/CLKO/RC15 (io), 8 EMUD1/SOSCI/T2CK/U1ATX/CN1/RC13 (io), 9 EMUC1/SOSCO/T1CK/U1ARX/CN0/RC14 (io), 10 VDD (power), 11 EMUD2/OC2/IC2/INT2/RD1 (io), 12 EMUC2/OC1/IC1/INT1/RD0 (io), 13 ~{FLTA}/INT0/SCK1/OCFA/RE8 (io), 14 PGD/EMUD/U1TX/SDO1/SCL/RF3 (io), 15 PGC/EMUC/U1RX/SDI1/SDA/RF2 (io), 16 VSS (power), 17 VDD (power), 18 PWM3H/RE5 (io), 19 PWM3L/RE4 (io), 20 PWM2H/RE3 (io), 21 PWM2L/RE2 (io), 22 PWM1H/RE1 (io), 23 PWM1L/RE0 (io), 24 AVSS (power), 25 AVDD (power), 26 ~{MCLR} (in), 27 EMUD3/AN0/VREF+/CN2/RB0 (io), 28 EMUC3/AN1/VREF-/CN3/RB1 (io), 29 ThermalPad

## DSPIC30F2010T-30I/SO
designator U?
High-Performance 16-bit Digital Signal Controller, 12 KB Flash, 512 Byte SRAM, 1 KB EEPROM, 28-Pin SOIC, Industrial Temperature, Tape and Reel; Published: 29-Jan-2009; DatasheetVersion: revH, May-2008; PackageVersion: revBB, Aug-2009; PackageReference: SOIC-SO28; Publisher: Altium Limited; PackageDescription: 28-Lead Plastic Small Outline (SO) - Wide 7.50mm Body [SOIC]; Supplier 1: Digi-Key; Supplier Part Number 1: DSPIC30F2010T30IS-ND; Code_JEDEC: MS-013; ComponentLink1Description: Datasheet; ComponentLink1URL: http://ww1.microchip.com/downloads/en/DeviceDoc/70118H.pdf; ComponentLink2Description: Packaging Specification; ComponentLink2URL: http://www.microchip.com/stellent/groups/techpub_sg/documents/packagingspec/en012702.pdf; ComponentLink3Description: Microchip.com Home; ComponentLink3URL: http://www.microchip.com/
footprint SOIC-SO28_N (SOIC, 28-Leads, Body 17.9x7.5mm, Pitch 1.27mm, IPC Medium Density)
footprint SOIC-SO28_L (SOIC, 28-Leads, Body 17.9x7.5mm, Pitch 1.27mm, IPC High Density)
footprint SOIC-SO28_M (SOIC, 28-Leads, Body 17.9x7.5mm, Pitch 1.27mm, IPC Low Density)
pins: 1 ~{MCLR} (in), 2 EMUD3/AN0/VREF+/CN2/RB0 (io), 3 EMUC3/AN1/VREF-/CN3/RB1 (io), 4 AN2/~{SS1}/CN4/RB2 (io), 5 AN3/INDX/CN5/RB3 (io), 6 AN4/QEA/IC7/CN6/RB4 (io), 7 AN5/QEB/IC8/CN7/RB5 (io), 8 VSS (power), 9 OSC1/CLKI (in), 10 OSC2/CLKO/RC15 (io), 11 EMUD1/SOSCI/T2CK/U1ATX/CN1/RC13 (io), 12 EMUC1/SOSCO/T1CK/U1ARX/CN0/RC14 (io), 13 VDD (power), 14 EMUD2/OC2/IC2/INT2/RD1 (io), 15 EMUC2/OC1/IC1/INT1/RD0 (io), 16 ~{FLTA}/INT0/SCK1/OCFA/RE8 (io), 17 PGD/EMUD/U1TX/SDO1/SCL/RF3 (io), 18 PGC/EMUC/U1RX/SDI1/SDA/RF2 (io), 19 VSS (power), 20 VDD (power), 21 PWM3H/RE5 (io), 22 PWM3L/RE4 (io), 23 PWM2H/RE3 (io), 24 PWM2L/RE2 (io), 25 PWM1H/RE1 (io), 26 PWM1L/RE0 (io), 27 AVSS (power), 28 AVDD (power)

## DSPIC30F2011-20E/ML
designator U?
High-Performance 16-bit Digital Signal Controller, 12 KB Flash, 1 KB SRAM, 28-Pin QFN, Extended High Temperature; Published: 29-Jan-2009; DatasheetVersion: revF, May-2008; PackageVersion: revBB, Aug-2009; PackageReference: QFN-ML28; Publisher: Altium Limited; PackageDescription: 28-Lead Plastic Quad Flat, No Lead Package (ML) - 6x6 mm Body [QFN] with 0.55 mm Contact Length; Supplier 1: Digi-Key; Supplier Part Number 1: DSPIC30F2011-20E/ML-ND; Code_JEDEC: MO-220; Code_IPC: QFN65P600X600-28V; ComponentLink1Description: Datasheet; ComponentLink1URL: http://ww1.microchip.com/downloads/en/DeviceDoc/70139F.pdf; ComponentLink2Description: Packaging Specification; ComponentLink2URL: http://www.microchip.com/stellent/groups/techpub_sg/documents/packagingspec/en012702.pdf; ComponentLink3Description: Microchip.com Home; ComponentLink3URL: http://www.microchip.com/
footprint QFN-ML28_N (QFN, 28-Leads, Body 6x6 mm, Pitch 0.65mm, IPC Medium Density)
footprint QFN-ML28_L (QFN, 28-Leads, Body 6x6 mm, Pitch 0.65mm, IPC High Density)
footprint QFN-ML28_M (QFN, 28-Leads, Body 6x6 mm, Pitch 0.65mm, IPC Low Density)
pins: 1 AN2/~{SS1}/LVDIN/CN4/RB2 (io), 2 AN3/CN5/RB3 (io), 3 NC, 4 NC, 5 VSS (power), 6 OSC1/CLKI (in), 7 OSC2/CLKO/RC15 (io), 8 EMUD1/SOSC1/T2CK/U1ATX/CN1/RC13 (io), 9 EMUC1/SOSCO/T1CK/U1ARX/CN0/RC14 (io), 10 VDD (power), 11 NC, 12 EMUC2/OC1/IC1/INT1/RD0 (io), 13 NC, 14 PGD/EMUD/AN4/U1TX/SDO1/SCL/CN6/RB4 (io), 15 PGC/EMUC/AN5/U1RX/SDI1/SDA/CN7/RB5 (io), 16 VSS (power), 17 VDD (power), 18 NC, 19 NC, 20 NC, 21 NC, 22 EMUD2/AN7/OC2/IC2/INT2/RB7 (io), 23 AN6/SCK1/INT0/OCFA/RB6 (io), 24 AVSS (power), 25 AVDD (power), 26 ~{MCLR} (in), 27 EMUD3/AN0/VREF+/CN2/RB0 (io), 28 EMUC3/AN1/VREF-/CN3/RB1 (io), 29 ThermalPad

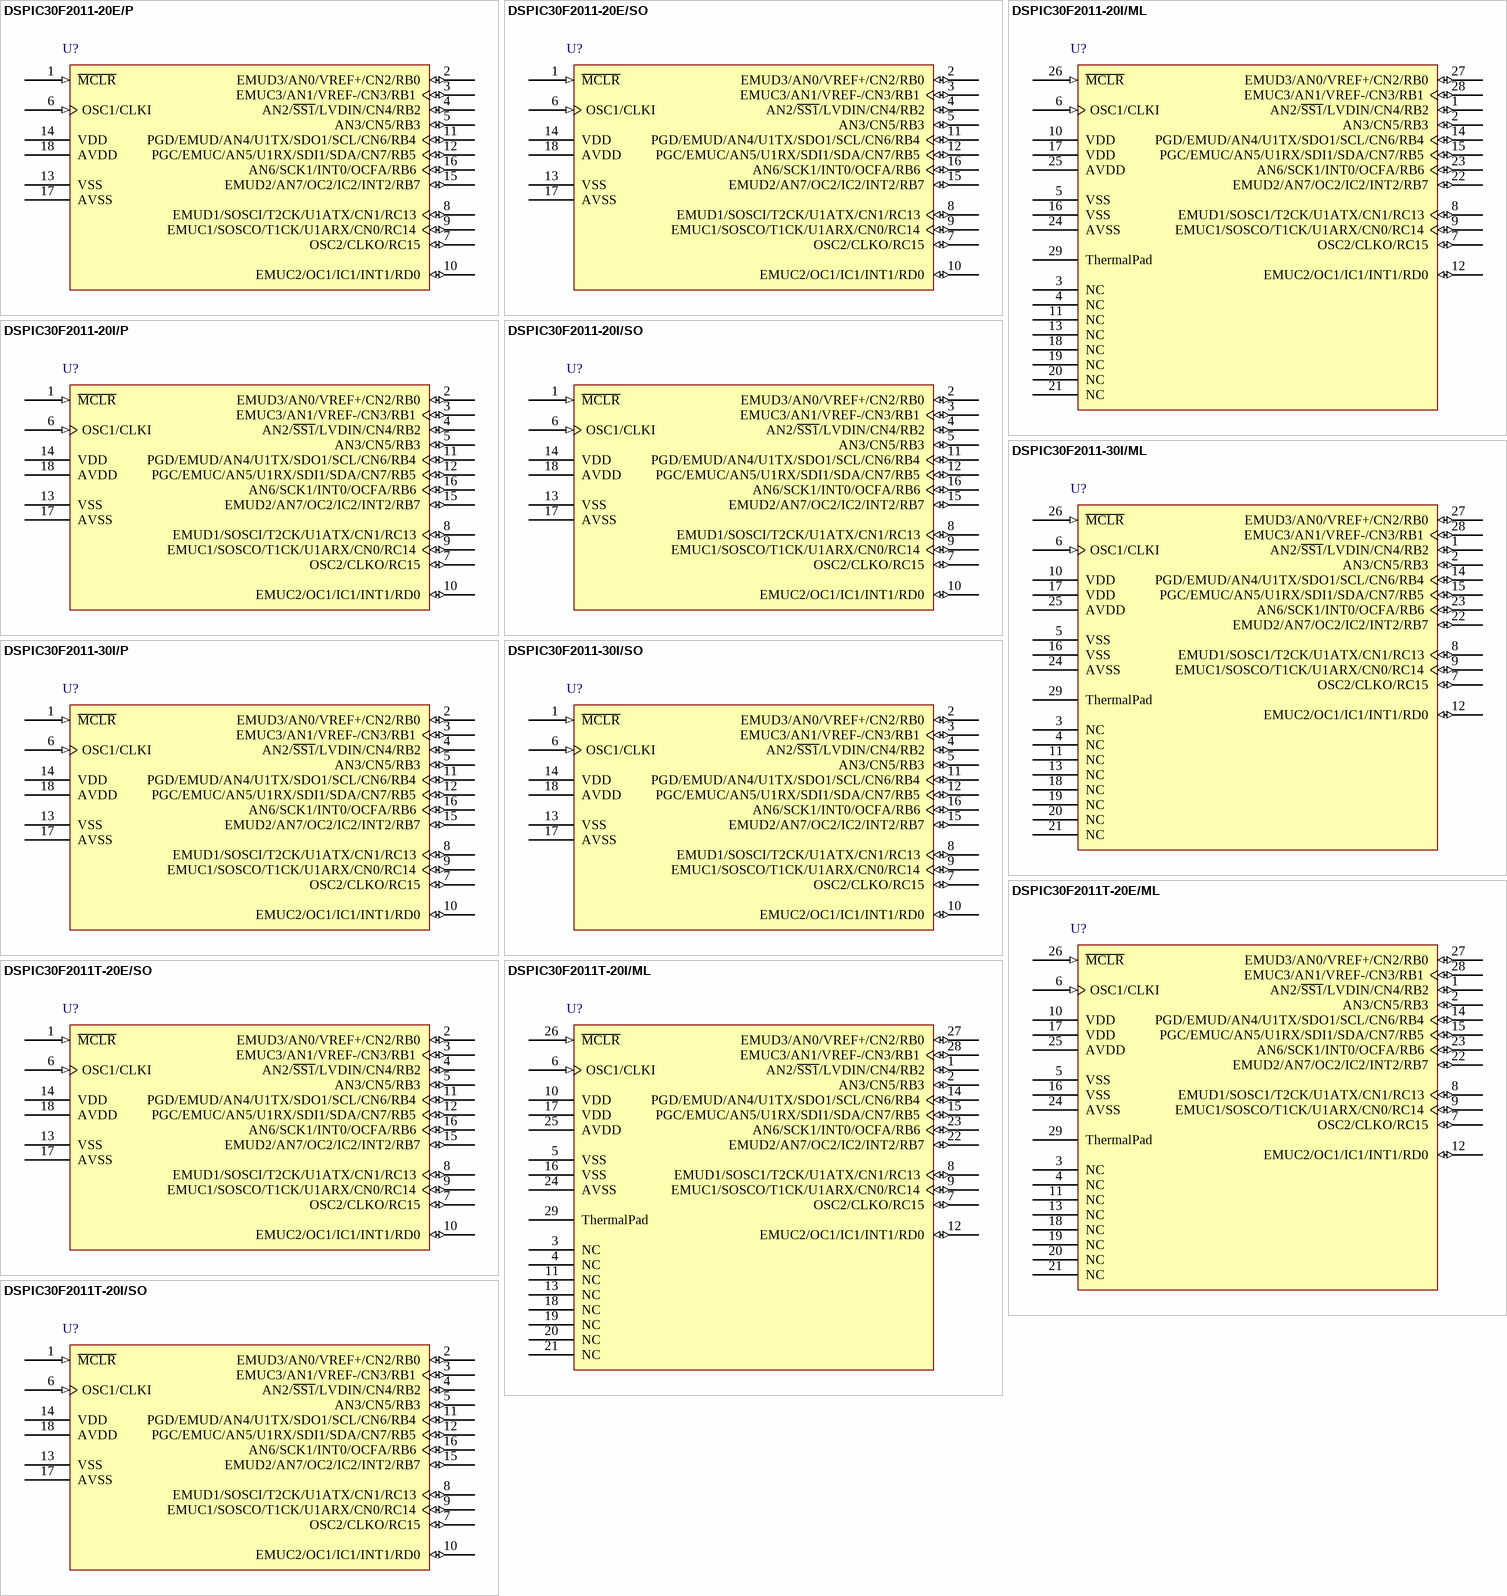
[diagram p3: symbols DSPIC30F2011-20E/P to DSPIC30F2011T-20I/SO]

## DSPIC30F2011-20E/P
designator U?
High-Performance 16-bit Digital Signal Controller, 12 KB Flash, 1 KB SRAM, 18-Pin PDIP, Extended High Temperature; Published: 29-Jan-2009; DatasheetVersion: revF, May-2008; PackageVersion: revBB, Aug-2009; PackageReference: PDIP300-P18; Publisher: Altium Limited; PackageDescription: 18-Lead Plastic Dual In-Line (P) - 300 mil Body [PDIP]; Supplier 1: Digi-Key; Supplier Part Number 1: DSPIC30F2011-20E/P-ND; Code_JEDEC: MS-001; ComponentLink1Description: Datasheet; ComponentLink1URL: http://ww1.microchip.com/downloads/en/DeviceDoc/70139F.pdf; ComponentLink2Description: Packaging Specification; ComponentLink2URL: http://www.microchip.com/stellent/groups/techpub_sg/documents/packagingspec/en012702.pdf; ComponentLink3Description: Microchip.com Home; ComponentLink3URL: http://www.microchip.com/
footprint PDIP300-P18 (DIP, 18-Leads, Row Spacing 7.62mm, Pitch 2.54mm, Body 22.9x6.6mm)
pins: 1 ~{MCLR} (in), 2 EMUD3/AN0/VREF+/CN2/RB0 (io), 3 EMUC3/AN1/VREF-/CN3/RB1 (io), 4 AN2/~{SS1}/LVDIN/CN4/RB2 (io), 5 AN3/CN5/RB3 (io), 6 OSC1/CLKI (in), 7 OSC2/CLKO/RC15 (io), 8 EMUD1/SOSCI/T2CK/U1ATX/CN1/RC13 (io), 9 EMUC1/SOSCO/T1CK/U1ARX/CN0/RC14 (io), 10 EMUC2/OC1/IC1/INT1/RD0 (io), 11 PGD/EMUD/AN4/U1TX/SDO1/SCL/CN6/RB4 (io), 12 PGC/EMUC/AN5/U1RX/SDI1/SDA/CN7/RB5 (io), 13 VSS (power), 14 VDD (power), 15 EMUD2/AN7/OC2/IC2/INT2/RB7 (io), 16 AN6/SCK1/INT0/OCFA/RB6 (io), 17 AVSS (power), 18 AVDD (power)